# Altium schematic symbol library IC_SMT.SchLib: 67 symbols
Pins are listed as number, name and electrical type; pins without a type are passive.

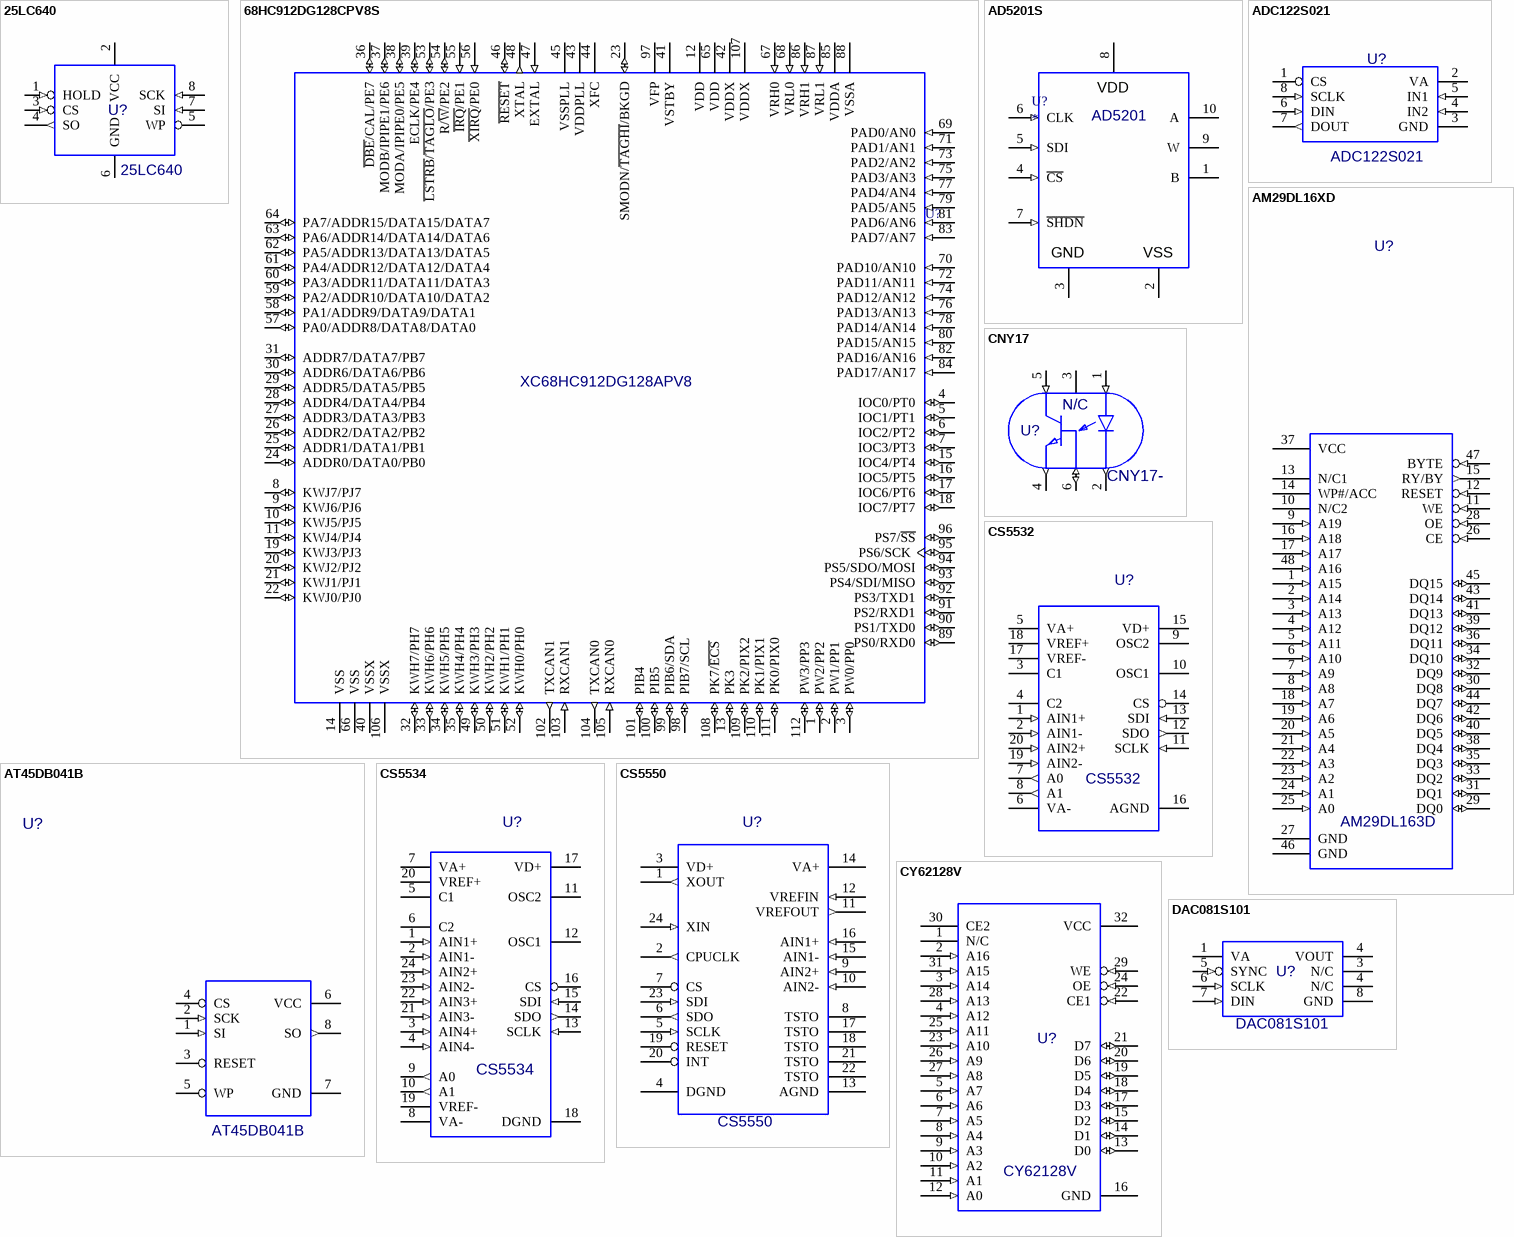
[diagram p0: symbols 25LC640 to DAC081S101]

## 25LC640
designator U?, comment value 25LC640  (hidden comment: 60184-6660)
IC, 25LC640; ECAD_Revision: 1; Librarian: US; PartNumber: 60184-6660; HelpURL: K:\ACCELEDA\PDF Spec Files\IC\25LC640.PDF; Item: *
footprint TSSOP8
pins: 1 HOLD (in), 2 VCC (power), 3 CS (in), 4 SO (out), 5 WP, 6 GND, 7 SI (in), 8 SCK (in)

## 68HC912DG128CPV8S
designator U?, comment value XC68HC912DG128APV8  (hidden comment: IXD/XC9120G128PV)
IC, XC68HC921DG128APV8; Power Rating: ??; ECAD_Revision: 2; Librarian: UK; PartNumber: IXD/XC9120G128PV; Item: *; Tolerance: *; HelpURL: *
footprint QFP112 (QFP; 112 Leads; Body 20 x 20 mm; Pitch 0.65 mm. Rev. 1)
pins: 1 PW2/PP2 (io), 2 PW1/PP1 (io), 3 PW0/PP0 (io), 4 IOC0/PT0 (io), 5 IOC1/PT1 (io), 6 IOC2/PT2 (io), 7 IOC3/PT3 (io), 8 KWJ7/PJ7 (io), 9 KWJ6/PJ6 (io), 10 KWJ5/PJ5 (io), 11 KWJ4/PJ4 (io), 12 VDD (power), 13 PK3 (io), 14 VSS (power), 15 IOC4/PT4 (io), 16 IOC5/PT5 (io), 17 IOC6/PT6 (io), 18 IOC7/PT7 (io), 19 KWJ3/PJ3 (io), 20 KWJ2/PJ2 (io), 21 KWJ1/PJ1 (io), 22 KWJ0/PJ0 (io), 23 SMODN/~{TAGHI}/BKGD (io), 24 ADDR0/DATA0/PB0 (io), 25 ADDR1/DATA1/PB1 (io), 26 ADDR2/DATA2/PB2 (io), 27 ADDR3/DATA3/PB3 (io), 28 ADDR4/DATA4/PB4 (io), 29 ADDR5/DATA5/PB5 (io), 30 ADDR6/DATA6/PB6 (io), 31 ADDR7/DATA7/PB7 (io), 32 KWH7/PH7 (io), 33 KWH6/PH6 (io), 34 KWH5/PH5 (io), 35 KWH4/PH4 (io), 36 ~{DBE}/CAL/PE7 (io), 37 MODB/IPIPE1/PE6 (io), 38 MODA/IPIPE0/PE5 (io), 39 ECLK/PE4 (io), 40 VSSX (power), 41 VSTBY (power), 42 VDDX (power), 43 VDDPLL (power), 44 XFC, 45 VSSPLL (power), 46 ~{RESET} (io), 47 EXTAL (in), 48 XTAL (out), 49 KWH3/PH3 (io), 50 KWH2/PH2 (io), 51 KWH1/PH1 (io), 52 KWH0/PH0 (io), 53 ~{LSTRB}/~{TAGLO}/PE3 (io), 54 R/~{W}/PE2 (io), 55 ~{IRQ}/PE1 (in), 56 ~{XIRQ}/PE0 (in), 57 PA0/ADDR8/DATA8/DATA0 (io), 58 PA1/ADDR9/DATA9/DATA1 (io), 59 PA2/ADDR10/DATA10/DATA2 (io), 60 PA3/ADDR11/DATA11/DATA3 (io), 61 PA4/ADDR12/DATA12/DATA4 (io), 62 PA5/ADDR13/DATA13/DATA5 (io), 63 PA6/ADDR14/DATA14/DATA6 (io), 64 PA7/ADDR15/DATA15/DATA7 (io), 65 VDD (power), 66 VSS (power), 67 VRH0 (in), 68 VRL0 (in), 69 PAD0/AN0 (in), 70 PAD10/AN10 (in), 71 PAD1/AN1 (in), 72 PAD11/AN11 (in), 73 PAD2/AN2 (in), 74 PAD12/AN12 (in), 75 PAD3/AN3 (in), 76 PAD13/AN13 (in), 77 PAD4/AN4 (in), 78 PAD14/AN14 (in), 79 PAD5/AN5 (in), 80 PAD15/AN15 (in), 81 PAD6/AN6 (in), 82 PAD16/AN16 (in), 83 PAD7/AN7 (in), 84 PAD17/AN17 (in), 85 VDDA (power), 86 VRH1 (in), 87 VRL1 (in), 88 VSSA (power), 89 PS0/RXD0 (io), 90 PS1/TXD0 (io), 91 PS2/RXD1 (io), 92 PS3/TXD1 (io), 93 PS4/SDI/MISO (io), 94 PS5/SDO/MOSI (io), 95 PS6/SCK (io), 96 PS7/~{SS} (io), 97 VFP (power), 98 PIB7/SCL (io), 99 PIB6/SDA (io), 100 PIB5 (io), 101 PIB4 (io), 102 TXCAN1 (out), 103 RXCAN1 (in), 104 TXCAN0 (out), 105 RXCAN0 (in), 106 VSSX (power), 107 VDDX (power), 108 PK7/~{ECS} (io), 109 PK2/PIX2 (io), 110 PK1/PIX1 (io), 111 PK0/PIX0 (io), 112 PW3/PP3 (io)

## AD5201S
designator U?  value AD5201
IC, AD5201BRM10, 33 Position  Digital Potentiometer; PartNumber: AWT25-000123; Librarian: UK; ECAD_Revision: 1; HelpURL: *
footprint uSOIC10 (Analog Devices 10-lead uSOIC RM-10 Rev.1)
pins: 1 B "B Terminal", 2 VSS "Negative Power Supply", 3 GND "Ground", 4 ~{CS} (in) "Chip Select Input", 5 SDI (in) "Serial Data Input", 6 CLK (in) "Serial Clock Input", 7 ~{SHDN} (in) "Shutdown", 8 VDD "Positive Power Supply", 9 W "Wiper Terminal", 10 A "A Terminal"

## ADC122S021
designator U?, comment value ADC122S021  (hidden comment: 23996-)
IC, ADC122S021; ECAD_Revision: 1; Librarian: US; PartNumber: 23996-; HelpURL: K:\ACCELEDA\PDF Spec Files\IC\ADC122S021.pdf; Item: *
footprint MSOP8
pins: 1 CS, 2 VA (power), 3 GND, 4 IN2 (in), 5 IN1 (in), 6 DIN (in), 7 DOUT (out), 8 SCLK (in)

## AM29DL16XD
designator U?, comment value AM29DL163D  (hidden comment: 60184-3337)
IC, AM29DL163D; ECAD_Revision: 1; Librarian: US; PartNumber: 60184-3337; HelpURL: K:\ACCELEDA\PDF Spec Files\IC\am29DL163D.PDF; Item: *
footprint TSOP48
pins: 1 A15 (in), 2 A14 (in), 3 A13 (in), 4 A12 (in), 5 A11 (in), 6 A10 (in), 7 A9 (in), 8 A8 (in), 9 A19 (in), 10 N/C2, 11 WE (in), 12 RESET (in), 13 N/C1, 14 WP#/ACC, 15 RY/BY (out), 16 A18 (in), 17 A17 (in), 18 A7 (in), 19 A6 (in), 20 A5 (in), 21 A4 (in), 22 A3 (in), 23 A2 (in), 24 A1 (in), 25 A0 (in), 26 CE (in), 27 GND, 28 OE (in), 29 DQ0 (io), 30 DQ8 (io), 31 DQ1 (io), 32 DQ9 (io), 33 DQ2 (io), 34 DQ10 (io), 35 DQ3 (io), 36 DQ11 (io), 37 VCC (power), 38 DQ4 (io), 39 DQ12 (io), 40 DQ5 (io), 41 DQ13 (io), 42 DQ6 (io), 43 DQ14 (io), 44 DQ7 (io), 45 DQ15 (io), 46 GND, 47 BYTE (in), 48 A16 (in)

## AT45DB041B
designator U?, comment value AT45DB041B  (hidden comment: AWT25-500076)
IC, AT45DB041B; ECAD_Revision: 2; Librarian: US; PartNumber: AWT25-500076; HelpURL: K:\ACCELEDA\PDF Spec Files\IC\AT45D041B.pdf; Item: *
footprint SOIC8_210
pins: 1 SI (in), 2 SCK (in), 3 RESET, 4 CS, 5 WP, 6 VCC (power), 7 GND, 8 SO (out)

## CNY17
designator U?, comment value CNY17-  (hidden comment: 60186-6668)
IC, Optocoupler CNY17-; ECAD_Revision: 1; Librarian: US; HelpURL: K:\ACCELEDA\PDF Spec Files\IC\CNY17-3.PDF; PartNumber: 60186-6668; Item: *
footprint SOIC6_300
pins: 1 (in), 2 (out), 3, 4 (out), 5 (in), 6 (io)
text: N/C

## CS5532
designator U?, comment value CS5532  (hidden comment: 60185-7006)
IC, CS5532; ECAD_Revision: 1; Librarian: US; PartNumber: 60185-7006; HelpURL: K:\ACCELEDA\PDF Spec Files\IC\cs5531-5.pdf; Item: *
footprint SSOP20
pins: 1 AIN1+ (in), 2 AIN1- (in), 3 C1, 4 C2, 5 VA+, 6 VA-, 7 A0 (out), 8 A1 (out), 9 OSC2, 10 OSC1, 11 SCLK (in), 12 SDO (out), 13 SDI (in), 14 CS, 15 VD+, 16 AGND, 17 VREF-, 18 VREF+, 19 AIN2- (in), 20 AIN2+ (in)

## CS5534
designator U?, comment value CS5534  (hidden comment: AWT25-500099)
IC, CS5534; ECAD_Revision: 1; Librarian: US; PartNumber: AWT25-500099; HelpURL: K:\ACCELEDA\PDF Spec Files\IC\cs5534.pdf; Item: *
footprint SSOP24
pins: 1 AIN1+ (in), 2 AIN1- (in), 3 AIN4+ (in), 4 AIN4- (in), 5 C1, 6 C2, 7 VA+, 8 VA-, 9 A0 (out), 10 A1 (out), 11 OSC2, 12 OSC1, 13 SCLK (in), 14 SDO (out), 15 SDI (in), 16 CS, 17 VD+, 18 DGND, 19 VREF-, 20 VREF+, 21 AIN3- (in), 22 AIN3+ (in), 23 AIN2- (in), 24 AIN2+ (in)

## CS5550
designator U?, comment value CS5550  (hidden comment: TMP_US_CS5550)
IC, CS5550; ECAD_Revision: 1; Librarian: US; PartNumber: TMP_US_CS5550; HelpURL: K:\ACCELEDA\PDF Spec Files\IC\cs5550.pdf; Item: *
footprint SSOP24
pins: 1 XOUT (out), 2 CPUCLK (out), 3 VD+ (power), 4 DGND, 5 SCLK (in), 6 SDO (out), 7 CS, 8 TSTO, 9 AIN2+ (in), 10 AIN2- (in), 11 VREFOUT (out), 12 VREFIN (in), 13 AGND, 14 VA+ (power), 15 AIN1- (in), 16 AIN1+ (in), 17 TSTO, 18 TSTO, 19 RESET, 20 INT, 21 TSTO, 22 TSTO, 23 SDI (in), 24 XIN (in)

## CY62128V
designator U?, comment value CY62128V  (hidden comment: 60184-0028)
IC, CY62128V; ECAD_Revision: 1; Librarian: US; PartNumber: 60184-0028; HelpURL: K:\ACCELEDA\PDF Spec Files\IC\CY62128V.PDF; Item: *
footprint SOIC32
pins: 1 N/C, 2 A16 (in), 3 A14 (in), 4 A12 (in), 5 A7 (in), 6 A6 (in), 7 A5 (in), 8 A4 (in), 9 A3 (in), 10 A2 (in), 11 A1 (in), 12 A0 (in), 13 D0 (io), 14 D1 (io), 15 D2 (io), 16 GND, 17 D3 (io), 18 D4 (io), 19 D5 (io), 20 D6 (io), 21 D7 (io), 22 CE1 (in), 23 A10 (in), 24 OE (in), 25 A11 (in), 26 A9 (in), 27 A8 (in), 28 A13 (in), 29 WE (in), 30 CE2, 31 A15 (in), 32 VCC (power)

## DAC081S101
designator U?, comment value DAC081S101  (hidden comment: TMP_US_DAC081S101)
IC, DAC081S101; ECAD_Revision: 1; Librarian: US; PartNumber: TMP_US_DAC081S101; HelpURL: K:\ACCELEDA\PDF Spec Files\IC\DAC081S101.PDF; Item: *
footprint MSOP8
pins: 1 VA (power), 3 N/C, 4 N/C, 4 VOUT (power), 5 SYNC (in), 6 SCLK (in), 7 DIN (in), 8 GND

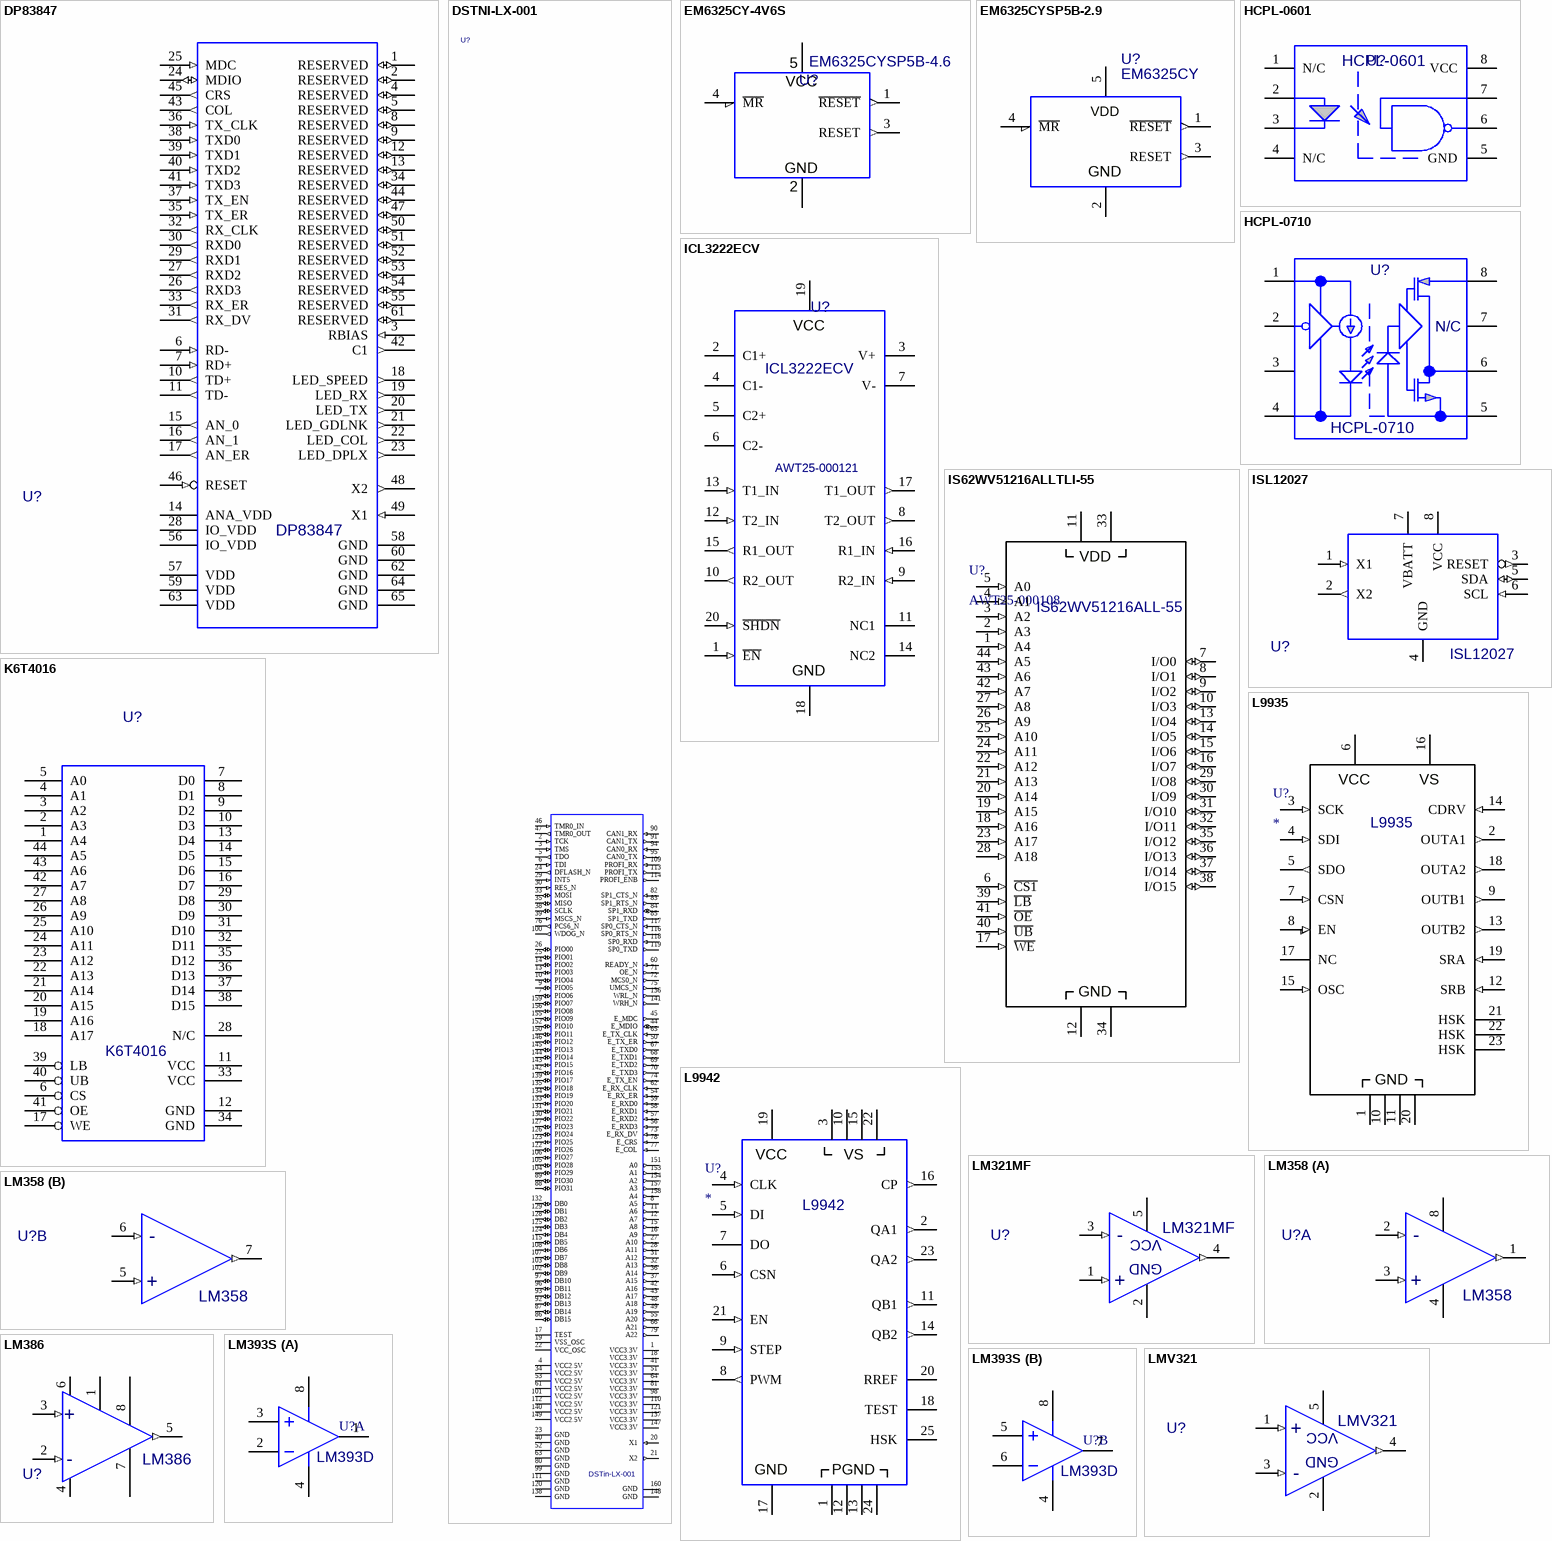
[diagram p1: symbols DP83847 to LMV321]

## DP83847
designator U?, comment value DP83847  (hidden comment: 60186-5009)
IC, DP83847; ECAD_Revision: 1; Librarian: US; PartNumber: 60186-5009; HelpURL: K:\ACCELEDA\PDF Spec Files\IC\dp83847.pdf; Item: *
footprint LLP56
pins: 1 RESERVED (io), 2 RESERVED (io), 3 RBIAS (in), 4 RESERVED (io), 5 RESERVED (io), 6 RD- (in), 7 RD+ (in), 8 RESERVED (io), 9 RESERVED (io), 10 TD+ (out), 11 TD- (out), 12 RESERVED (io), 13 RESERVED (io), 14 ANA_VDD (power), 15 AN_0 (out), 16 AN_1 (out), 17 AN_ER (out), 18 LED_SPEED (out), 19 LED_RX (out), 20 LED_TX (out), 21 LED_GDLNK (out), 22 LED_COL (out), 23 LED_DPLX (out), 24 MDIO (io), 25 MDC (in), 26 RXD3 (out), 27 RXD2 (out), 28 IO_VDD (power), 29 RXD1 (out), 30 RXD0 (out), 31 RX_DV (out), 32 RX_CLK (out), 33 RX_ER (out), 34 RESERVED (io), 35 TX_ER (in), 36 TX_CLK (in), 37 TX_EN (in), 38 TXD0 (in), 39 TXD1 (in), 40 TXD2 (in), 41 TXD3 (in), 42 C1 (out), 43 COL (out), 44 RESERVED (io), 45 CRS (out), 46 RESET (in), 47 RESERVED (io), 48 X2 (out), 49 X1 (in), 50 RESERVED (io), 51 RESERVED (io), 52 RESERVED (io), 53 RESERVED (io), 54 RESERVED (io), 55 RESERVED (io), 56 IO_VDD (power), 57 VDD (power), 58 GND (power), 59 VDD (power), 60 GND (power), 61 RESERVED (io), 62 GND (power), 63 VDD (power), 64 GND (power), 65 GND (power)

## DSTNI-LX-001
designator U?, comment value DSTin-LX-001  (hidden comment: 60183-0052)
IC, DSTin-LX-001; ECAD_Revision: 1; Librarian: US; HelpURL: K:\ACCELEDA\PDF Spec Files\IC\dstni-lx_databook_d.pdf; Item: *; PartNumber: 60183-0052
footprint LQFP160
pins: 1 VCC3.3V (power), 2 TCK (in), 3 TMS (in), 4 VCC2.5V (power), 5 TDO (out), 6 TDI (in), 7 PIO06 (io), 8 A5 (out), 9 PIO05 (io), 10 PIO04 (io), 11 A6 (out), 12 A7 (out), 13 PIO03 (io), 14 PIO02 (io), 15 A8 (out), 16 A9 (out), 17 TEST, 18 VCC3.3V (power), 19 VSS_OSC, 20 X1 (in), 21 X2 (out), 22 VCC_OSC (power), 23 GND, 24 DFLASH_N (out), 25 PIO01 (io), 26 PIO00 (io), 27 A10 (out), 28 A11 (out), 29 INT5 (in), 30 RES_N (in), 31 A12 (out), 32 A13 (out), 33 MOSI (io), 34 VCC2.5V (power), 35 MISO (io), 36 A14 (out), 37 A15 (out), 38 SCLK (io), 39 MSCS_N (in), 40 GND, 41 VCC3.3V (power), 42 A16 (out), 43 A17 (out), 44 E_MDIO (io), 45 E_MDC (out), 46 TMR0_IN (in), 47 TMR0_OUT (out), 48 A18 (out), 49 A19 (out), 50 E_TX_ER (out), 51 VCC3.3V (power), 52 GND, 53 VCC2.5V (power), 54 E_RX_ER (in), 55 A20 (out), 56 E_RXD3 (in), 57 E_RXD2 (in), 58 E_RXD1 (in), 59 E_RXD0 (in), 60 READY_N (in), 61 VCC2.5V (power), 62 E_RX_CLK (in), 63 GND, 64 VCC3.3V (power), 65 E_TX_CLK (in), 66 A21 (out), 67 E_TXD0 (out), 68 E_TXD1 (out), 69 E_TXD2 (out), 70 E_TXD3 (out), 71 OE_N (out), 72 MCS0_N (out), 73 E_RX_DV (in), 74 E_TX_EN (out), 75 UMCS_N (out), 76 PCS6_N (out), 77 E_COL (in), 78 E_CRS (in), 79 A22 (out), 80 GND, 81 VCC3.3V (power), 82 SP1_CTS_N (in), 83 SP1_RTS_N (out), 84 SP1_RXD (io), 85 SP1_TXD (out), 86 DB15 (io), 87 DB14 (io), 88 PIO31 (io), 89 PIO30 (io), 90 CAN1_RX (in), 91 CAN1_TX (out), 92 DB13 (io), 93 DB12 (io), 94 CAN0_RX (in), 95 CAN0_TX (out), 96 DB11 (io), 97 DB10 (io), 98 VCC3.3V (power), 99 GND, 100 WDOG_N (out), 101 VCC2.5V (power), 102 DB9 (io), 103 DB8 (io), 104 PIO29 (io), 105 PIO28 (io), 106 PIO27 (io), 107 DB7 (io), 108 DB6 (io), 109 PROFI_RX (in), 110 VCC3.3V (power), 111 GND, 112 VCC2.5V (power), 113 PROFI_TX (out), 114 PROFI_ENB (out), 115 DB5 (io), 116 SP0_RTS_N (out), 117 SP0_CTS_N (in), 118 SP0_RXD (in), 119 SP0_TXD (out), 120 GND, 121 VCC3.3V (power), 122 PIO26 (io), 123 PIO25 (io), 124 DB4 (io), 125 DB3 (io), 126 PIO24 (io), 127 PIO23 (io), 128 DB2 (io), 129 DB1 (io), 130 PIO22 (io), 131 PIO21 (io), 132 DB0 (io), 133 PIO20 (io), 134 PIO19 (io), 135 PIO18 (io), 136 WRL_N (out), 137 VCC3.3V (power), 138 GND, 139 PIO17 (io), 140 VCC2.5V (power), 141 WRH_N (out), 142 PIO16 (io), 143 PIO15 (io), 144 PIO14 (io), 145 PIO13 (io), 146 PIO12 (io), 147 VCC3.3V (power), 148 GND, 149 VCC2.5V (power), 150 PIO11 (io), 151 A0 (out), 152 PIO10 (io), 153 A1 (out), 154 A2 (out), 155 PIO09 (io), 156 PIO08 (io), 157 A3 (out), 158 A4 (out), 159 PIO07 (io), 160 GND

## EM6325CY-4V6S
designator U?, comment value EM6325CYSP5B-4.6  (hidden comment: IXA/EM6325CY-4V6)
IC, EM6325CYSP5B-4.6; Power Rating: ??; ECAD_Revision: 5; Librarian: UK; PartNumber: IXA/EM6325CY-4V6; Item: *
footprint SOT23-5
pins: 1 ~{RESET} (out), 2 GND (power), 3 RESET (out), 4 ~{MR}, 5 VDD (power)
text: VCC

## EM6325CYSP5B-2.9
designator U?, comment value EM6325CY  (hidden comment: IXA/EM6325CY-2_9)
IC, Reset Generator 2.9V; Power Rating: ??; ECAD_Revision: 1; Librarian: UK; PartNumber: IXA/EM6325CY-2_9; Item: *
footprint SOT23-5
pins: 1 ~{RESET} (out), 2 GND (power), 3 RESET (out), 4 ~{MR}, 5 VDD (power)

## HCPL-0601
designator U?, comment value HCPL-0601  (hidden comment: 60186-6676)
IC, HCPL-0601; ECAD_Revision: 1; Librarian: US; PartNumber: 60186-6676; HelpURL: K:\ACCELEDA\PDF Spec Files\IC\HCPL-0601.PDF; Item: *
footprint SOIC8
pins: 1 N/C, 2 ANODE, 3 CATHODE, 4 N/C, 5 GND, 6 V02, 7 VE, 8 VCC (power)

## HCPL-0710
designator U?, comment value HCPL-0710  (hidden comment: 60186-6684)
IC, HCPL-0710; ECAD_Revision: 1; Librarian: US; PartNumber: 60186-6684; HelpURL: K:\ACCELEDA\PDF Spec Files\IC\HCPL-0710.PDF; Item: *
footprint SOIC8
pins: 1 VDD1, 2 V1, 3 ANODE, 4 GND1, 5 GND2, 6 V0, 7 N/C, 8 VDD2

## ICL3222ECV
designator U?, comment AWT25-000121  value ICL3222ECV
IC, 250kbps RS232 2 x Transmitters / 2 x Receivers; ECAD_Revision: 1; Librarian: UK; PartNumber: AWT25-000121; Item: *; Power Rating: *; Tolerance: *
footprint TSSOP20
pins: 1 ~{EN} (in), 2 C1+, 3 V+, 4 C1-, 5 C2+, 6 C2-, 7 V-, 8 T2_OUT (out), 9 R2_IN (in), 10 R2_OUT (out), 11 NC1, 12 T2_IN (in), 13 T1_IN (in), 14 NC2, 15 R1_OUT (out), 16 R1_IN (in), 17 T1_OUT (out), 18 GND, 19 VCC, 20 ~{SHDN} (in)

## IS62WV51216ALLTLI-55
designator U?, comment AWT25-000108  value IS62WV51216ALL-55
IC, IS62WV51216ALL-55TLI, CMOS STATIC RAM; ECAD_Revision: 1; Librarian: UK; HelpURL: *; Item: *; PartNumber: AWT25-000108; Power Rating: *; Tolerance: *
footprint TSOPII44
pins: 1 A4 (in) "Address 4", 2 A3 (in) "Address 3", 3 A2 (in) "Address 2", 4 A1 (in) "Address 1", 5 A0 (in) "Address 0", 6 ~{CS1} (in) "/Chip Select 1", 7 I/O0 (io) "Data Input/Output 0", 8 I/O1 (io) "Data Input/Output 1", 9 I/O2 (io) "Data Input/Output 2", 10 I/O3 (io) "Data Input/Output 3", 11 VDD (power) "Power Supply", 12 GND (power) "Ground", 13 I/O4 (io) "Data Input/Output 4", 14 I/O5 (io) "Data Input/Output 5", 15 I/O6 (io) "Data Input/Output 6", 16 I/O7 (io) "Data Input/Output 7", 17 ~{WE} (in) "/Write Enable", 18 A16 (in) "Address 16", 19 A15 (in) "Address 15", 20 A14 (in) "Address 14", 21 A13 (in) "Address 13", 22 A12 (in) "Address 12", 23 A17 (in) "Address 17", 24 A11 (in) "Address 11", 25 A10 (in) "Address 10", 26 A9 (in) "Address 9", 27 A8 (in) "Address 8", 28 A18 (in) "Address 18", 29 I/O8 (io) "Data Input/Output 8", 30 I/O9 (io) "Data Input/Output 9", 31 I/O10 (io) "Data Input/Output 10", 32 I/O11 (io) "Data Input/Output 11", 33 VDD (power) "Power Supply", 34 GND (power) "Ground", 35 I/O12 (io) "Data Input/Output 12", 36 I/O13 (io) "Data Input/Output 13", 37 I/O14 (io) "Data Input/Output 14", 38 I/O15 (io) "Data Input/Output 15", 39 ~{LB} (in) "/Lower Byte Control", 40 ~{UB} (in) "/Upper Byte Control", 41 ~{OE} (in) "/Output Enable", 42 A7 (in) "Address 7", 43 A6 (in) "Address 6", 44 A5 (in) "Address 5"

## ISL12027
designator U?, comment value ISL12027  (hidden comment: TMP_US_ISL12027)
IC, ISL12027; ECAD_Revision: 1; Librarian: US; PartNumber: TMP_US_ISL12027; HelpURL: K:\ACCELEDA\PDF Spec Files\IC\ISL12027.pdf; Item: *
footprint SOIC8
pins: 1 X1 (in), 2 X2 (out), 3 RESET (out), 4 GND, 5 SDA (io), 6 SCL (in), 7 VBATT, 8 VCC (power)

## K6T4016
designator U?, comment value K6T4016  (hidden comment: 60184-0010)
IC, K6T4016; ECAD_Revision: 1; Librarian: US; PartNumber: 60184-0010; HelpURL: K:\ACCELEDA\PDF Spec Files\IC\k6t4016.pdf; Item: *
footprint TSOPII44
pins: 1 A4, 2 A3, 3 A2, 4 A1, 5 A0, 6 CS, 7 D0, 8 D1, 9 D2, 10 D3, 11 VCC, 12 GND, 13 D4, 14 D5, 15 D6, 16 D7, 17 WE, 18 A17, 19 A16, 20 A15, 21 A14, 22 A13, 23 A12, 24 A11, 25 A10, 26 A9, 27 A8, 28 N/C, 29 D8, 30 D9, 31 D10, 32 D11, 33 VCC, 34 GND, 35 D12, 36 D13, 37 D14, 38 D15, 39 LB, 40 UB, 41 OE, 42 A7, 43 A6, 44 A5

## L9935
designator U?  value L9935
IC, Two Phase Stepper Motor Driver; PartNumber: IXA/L9935; Librarian: UK; ECAD_revision: 1; HelpURL: *
footprint SO20_POWER (ST Micro Jedec MO-166 Rev. 1)
pins: 1 GND "Ground", 2 OUTA1 (out) "Output 1A", 3 SCK (in) "Serial Clock Input", 4 SDI (in) "Serial Data Input", 5 SDO (out) "Serial Data Output", 6 VCC "Logic Supply", 7 CSN (in) "Chip select", 8 EN (in) "Enable", 9 OUTB1 (out) "Output B1", 10 GND "Ground", 11 GND "Ground", 12 SRB (in) "Current Sense B", 13 OUTB2 (out) "Output B2", 14 CDRV (in) "Charge Pump Capacitor", 15 OSC (in) "Oscillator Input", 16 VS "Supply Voltage", 17 NC "Not Connected", 18 OUTA2 (out) "Output A2", 19 SRA (in) "Current Sense A", 20 GND "Ground", 21 HSK "Heatsink", 22 HSK "Heatsink", 23 HSK "Heatsink"

## L9942
designator U?  value L9942
IC, L9942, Two Phase Stepper Motor Driver; PartNumber: AWT25-000112; ECAD_Revision: 1; LIbrarian: UK; HelpURL: *; Power Rating: *; Tolerance: *; Item: *
footprint SO24_POWER (ST Micro, Rev. 1)
pins: 1 PGND "Power Ground", 2 QA1 (out) "Bridge Output A1", 3 VS "Power Supply Voltage", 4 CLK (in) "SPI Clock Input", 5 DI (in) "SPI Data Input", 6 CSN (in) "SPI Chip Select", 7 DO  "SPI Data Output", 8 PWM (out) "PWM Output", 9 STEP (in) "Step Clock Input", 10 VS "Power Supply Voltage", 11 QB1 (out) "Bridge Output B1", 12 PGND "Power Ground", 13 PGND "Power Ground", 14 QB2 (out) "Bridge Output B2", 15 VS "Power Supply Voltage", 16 CP (out) "Charge Pump Output", 17 GND "Ground Reference", 18 TEST "Test Input", 19 VCC "Logic Supply Voltage", 20 RREF "Reference Resistor", 21 EN (in) "Enable Input", 22 VS "Power Supply Voltage", 23 QA2 (out) "Bridge Output A2", 24 PGND "Power Ground", 25 HSK "Heatsink"

## LM321MF
designator U?, comment value LM321MF  (hidden comment: AWT25-000229)
IC, LM321MF; ECAD_Revision: 1; Librarian: UK; PartNumber: AWT25-000229; HelpURL: *; Item: *
footprint SOT23-5
pins: 1 IN+ (in), 2 GND, 3 IN- (in), 4 OUT (out), 5 VCC
text: -; +

## LM358
designator U?, comment value LM358  (hidden comment: AWT25-500077)
IC, LM358; ECAD_Revision: 2; Librarian: US; PartNumber: AWT25-500077; HelpURL: K:\ACCELEDA\PDF Spec Files\IC\lm358pw.pdf; Item: *
footprint TSSOP8
part A pins: 1 1OUT (out), 2 1IN- (in), 3 1IN+ (in), 4 GND, 8 VCC (power)
part B pins: 5 2IN+ (in), 6 2IN- (in), 7 2OUT (out)
part A text: -; +
part B text: -; +

## LM386
designator U?, comment value LM386  (hidden comment: AWT25-500078)
IC, LM386; ECAD_Revision: 2; Librarian: US; PartNumber: AWT25-500078; HelpURL: K:\ACCELEDA\PDF Spec Files\IC\lm386.pdf; Item: *
footprint SOIC8
pins: 1 GAIN, 2 -IN (in), 3 +IN (in), 4 GND, 5 VOUT (out), 6 VS (power), 7 BYPASS, 8 GAIN
text: +; -

## LM393S
designator U?, comment value LM393D  (hidden comment: IXA/LM393D)
IC, LM393D, Dual voltage comparator; ECAD_Revision: 2; Librarian: UK; PartNumber: IXA/LM393D; Item: *; HelpURL: *
footprint SOIC8
pins on every part: 4 (power), 8 (power)
part A pins: 1, 2, 3
part B pins: 5, 6, 7

## LMV321
designator U?, comment value LMV321  (hidden comment: IXA/LMV321M7)
IC, LMV321M7X; ECAD_Revision: 4; Librarian: UK; PartNumber: IXA/LMV321M7; HelpURL: *; Item: *
footprint SC70-5 (Rev. 2, pad size was 0.5x0.4mm, round)
pins: 1 IN- (in), 2 GND, 3 IN+ (in), 4 OUT (out), 5 VCC
text: +; -

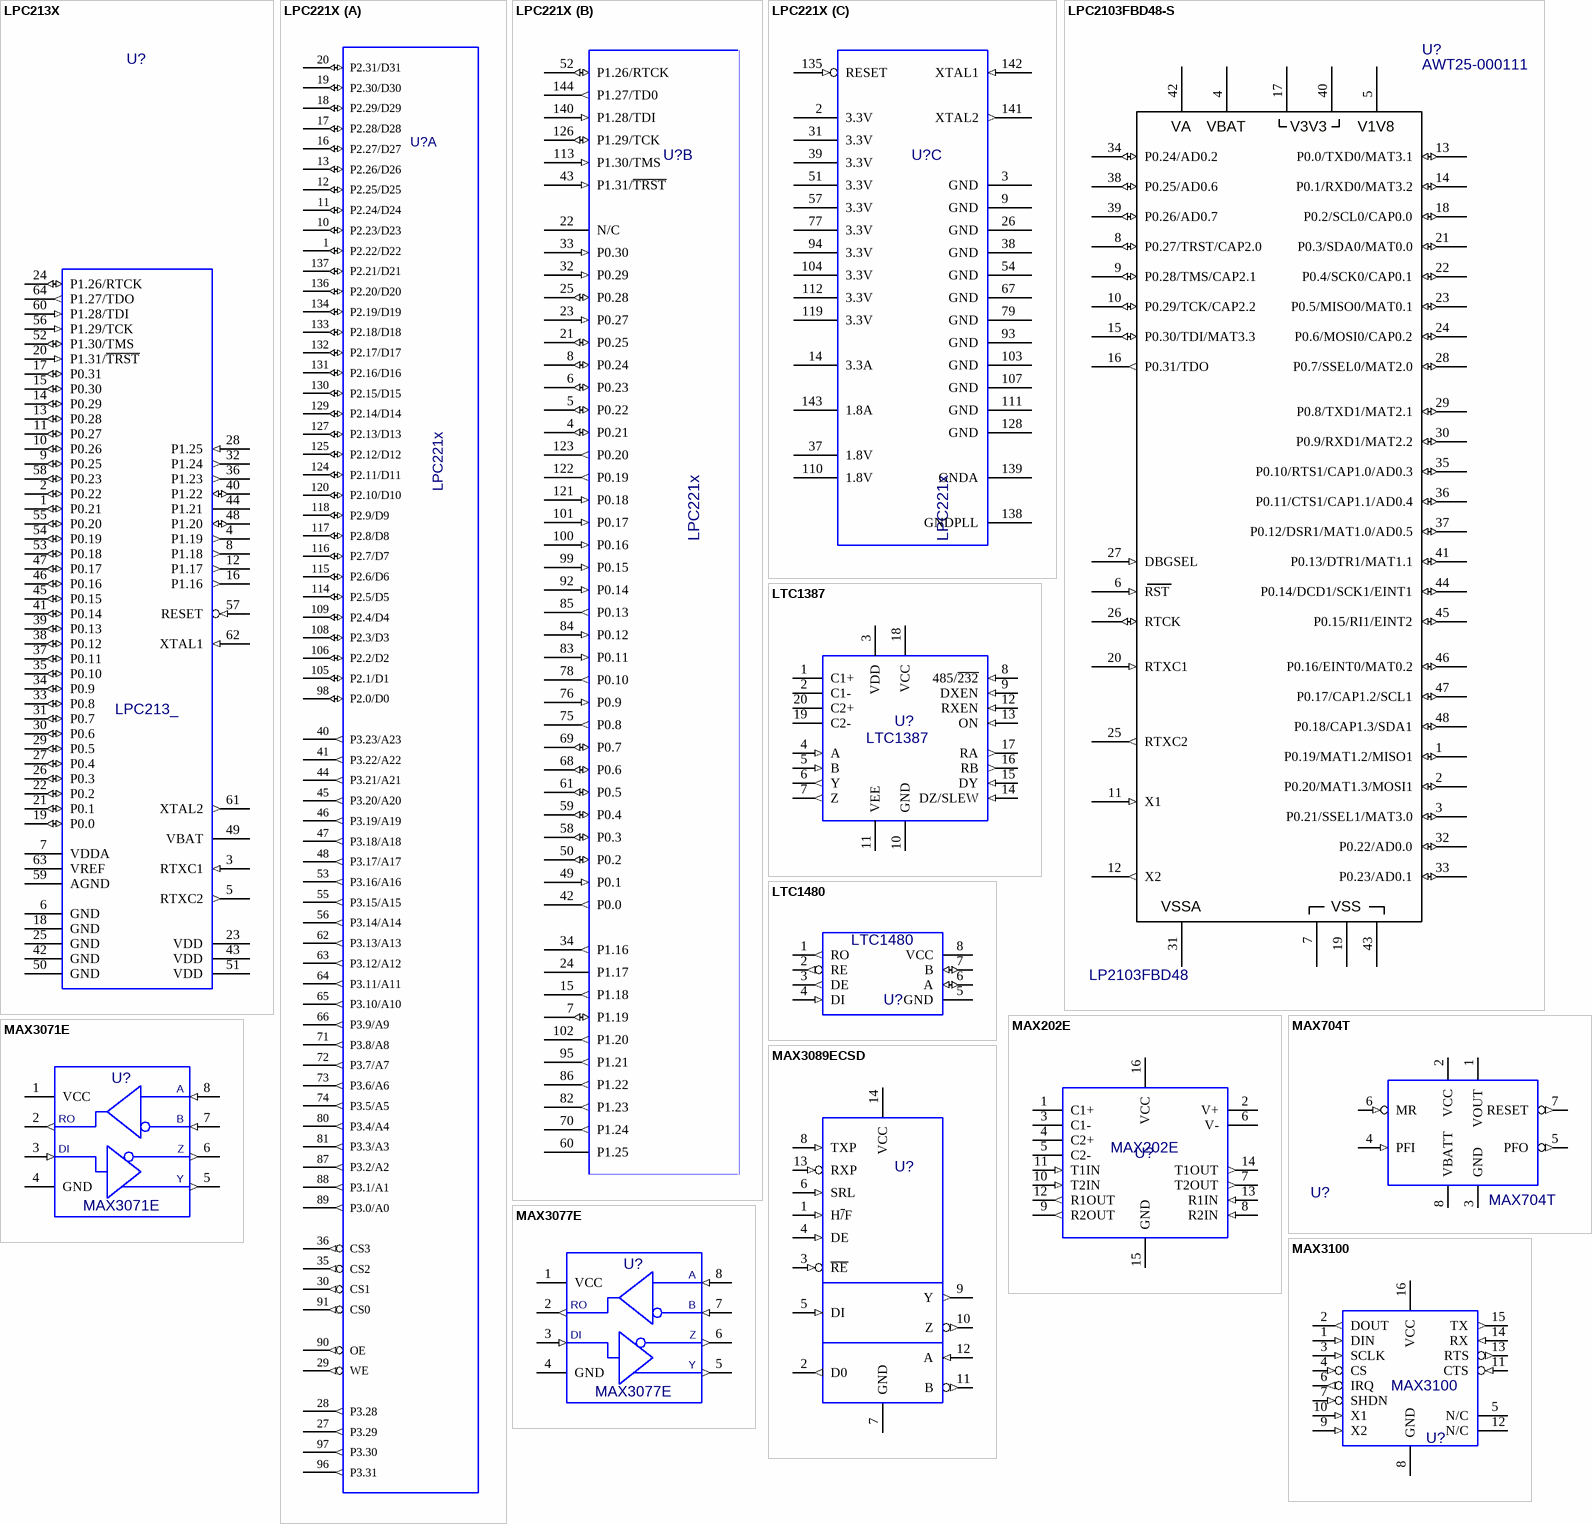
[diagram p2: symbols LPC213X to MAX3100]

## LPC213X
designator U?, comment value LPC213_  (hidden comment: 60183-0045 or 60183-0060)
IC, LPC213_; ECAD_Revision: 1; Librarian: US; PartNumber: 60183-0045 or 60183-0060; HelpURL: K:\ACCELEDA\PDF Spec Files\IC\LPC2131.pdf; Item: *
footprint LQFP64
pins: 1 P0.21 (io), 2 P0.22 (io), 3 RTXC1 (in), 4 P1.19 (out), 5 RTXC2 (out), 6 GND, 7 VDDA (power), 8 P1.18 (out), 9 P0.25 (io), 10 P0.26 (io), 11 P0.27 (io), 12 P1.17 (out), 13 P0.28 (io), 14 P0.29 (io), 15 P0.30 (io), 16 P1.16 (out), 17 P0.31 (io), 18 GND, 19 P0.0 (io), 20 P1.31/~{TRST} (in), 21 P0.1 (io), 22 P0.2 (io), 23 VDD (power), 24 P1.26/RTCK (io), 25 GND, 26 P0.3 (io), 27 P0.4 (io), 28 P1.25 (in), 29 P0.5 (io), 30 P0.6 (io), 31 P0.7 (io), 32 P1.24 (out), 33 P0.8 (io), 34 P0.9 (io), 35 P0.10 (io), 36 P1.23 (out), 37 P0.11 (io), 38 P0.12 (io), 39 P0.13 (io), 40 P1.22 (io), 41 P0.14 (io), 42 GND, 43 VDD (power), 44 P1.21, 45 P0.15 (io), 46 P0.16 (io), 47 P0.17 (io), 48 P1.20 (io), 49 VBAT (power), 50 GND, 51 VDD (power), 52 P1.30/TMS (io), 53 P0.18 (io), 54 P0.19 (io), 55 P0.20 (io), 56 P1.29/TCK (in), 57 RESET (in), 58 P0.23 (io), 59 AGND (power), 60 P1.28/TDI (in), 61 XTAL2 (out), 62 XTAL1 (in), 63 VREF (power), 64 P1.27/TDO (out)

## LPC221X
designator U?, comment value LPC221x  (hidden comment: 60183-0011 or 60183-0029)
IC, LPC221x; ECAD_Revision: 1; Librarian: US; PartNumber: 60183-0011 or 60183-0029; HelpURL: K:\ACCELEDA\PDF Spec Files\IC\LPC2212_2214-02.PDF; Item: *
footprint LQFP144
part A pins: 1 P2.22/D22 (io), 10 P2.23/D23 (io), 11 P2.24/D24 (io), 12 P2.25/D25 (io), 13 P2.26/D26 (io), 16 P2.27/D27 (io), 17 P2.28/D28 (io), 18 P2.29/D29 (io), 19 P2.30/D30 (io), 20 P2.31/D31 (io), 27 P3.29 (out), 28 P3.28 (out), 29 WE (out), 30 CS1 (out), 35 CS2 (out), 36 CS3 (out), 40 P3.23/A23 (out), 41 P3.22/A22 (out), 44 P3.21/A21 (out), 45 P3.20/A20 (out), 46 P3.19/A19 (out), 47 P3.18/A18 (out), 48 P3.17/A17 (out), 53 P3.16/A16 (out), 55 P3.15/A15 (out), 56 P3.14/A14 (out), 62 P3.13/A13 (out), 63 P3.12/A12 (out), 64 P3.11/A11 (out), 65 P3.10/A10 (out), 66 P3.9/A9 (out), 71 P3.8/A8 (out), 72 P3.7/A7 (out), 73 P3.6/A6 (out), 74 P3.5/A5 (out), 80 P3.4/A4 (out), 81 P3.3/A3 (out), 87 P3.2/A2 (out), 88 P3.1/A1 (out), 89 P3.0/A0 (out), 90 OE (out), 91 CS0 (out), 96 P3.31 (out), 97 P3.30 (out), 98 P2.0/D0 (io), 105 P2.1/D1 (io), 106 P2.2/D2 (io), 108 P2.3/D3 (io), 109 P2.4/D4 (io), 114 P2.5/D5 (io), 115 P2.6/D6 (io), 116 P2.7/D7 (io), 117 P2.8/D8 (io), 118 P2.9/D9 (io), 120 P2.10/D10 (io), 124 P2.11/D11 (io), 125 P2.12/D12 (io), 127 P2.13/D13 (io), 129 P2.14/D14 (io), 130 P2.15/D15 (io), 131 P2.16/D16 (io), 132 P2.17/D17 (io), 133 P2.18/D18 (io), 134 P2.19/D19 (io), 136 P2.20/D20 (io), 137 P2.21/D21 (io)
part B pins: 4 P0.21 (io), 5 P0.22 (io), 6 P0.23 (io), 7 P1.19 (io), 8 P0.24 (io), 15 P1.18 (out), 21 P0.25 (io), 22 N/C, 23 P0.27 (in), 24 P1.17, 25 P0.28 (io), 32 P0.29 (in), 33 P0.30 (in), 34 P1.16 (out), 42 P0.0 (out), 43 P1.31/~{TRST} (in), 49 P0.1 (in), 50 P0.2 (io), 52 P1.26/RTCK (io), 58 P0.3 (io), 59 P0.4 (io), 60 P1.25, 61 P0.5 (io), 68 P0.6 (io), 69 P0.7 (io), 70 P1.24 (out), 75 P0.8 (out), 76 P0.9 (in), 78 P0.10 (out), 82 P1.23 (out), 83 P0.11 (in), 84 P0.12 (in), 85 P0.13 (out), 86 P1.22 (out), 92 P0.14 (in), 95 P1.21 (out), 99 P0.15 (in), 100 P0.16 (in), 101 P0.17 (in), 102 P1.20 (out), 113 P1.30/TMS (in), 121 P0.18 (in), 122 P0.19 (out), 123 P0.20 (out), 126 P1.29/TCK (io), 140 P1.28/TDI (in), 144 P1.27/TD0 (out)
part C pins: 2 3.3V (power), 3 GND, 9 GND, 14 3.3A (power), 26 GND, 31 3.3V (power), 37 1.8V (power), 38 GND, 39 3.3V (power), 51 3.3V (power), 54 GND, 57 3.3V (power), 67 GND, 77 3.3V (power), 79 GND, 93 GND, 94 3.3V (power), 103 GND, 104 3.3V (power), 107 GND, 110 1.8V (power), 111 GND, 112 3.3V (power), 119 3.3V (power), 128 GND, 135 RESET (in), 138 GNDPLL (power), 139 GNDA, 141 XTAL2 (out), 142 XTAL1 (in), 143 1.8A (power)

## LPC2103FBD48-S
designator U?, comment AWT25-000111  value LP2103FBD48
IC, ARM7 Microcontroller; ECAD_Revision: 1; Librarian: UK; PartNumber: AWT25-000111; Help_URL: *
footprint LQFP48-2 (Rev.1)
pins: 1 P0.19/MAT1.2/MISO1 (io), 2 P0.20/MAT1.3/MOSI1 (io), 3 P0.21/SSEL1/MAT3.0 (io), 4 VBAT, 5 V1V8, 6 RST (in), 7 VSS, 8 P0.27/TRST/CAP2.0 (io), 9 P0.28/TMS/CAP2.1 (io), 10 P0.29/TCK/CAP2.2 (io), 11 X1 (in), 12 X2 (out), 13 P0.0/TXD0/MAT3.1 (io), 14 P0.1/RXD0/MAT3.2 (io), 15 P0.30/TDI/MAT3.3 (io), 16 P0.31/TDO (out), 17 V3V3, 18 P0.2/SCL0/CAP0.0 (io), 19 VSS, 20 RTXC1 (in), 21 P0.3/SDA0/MAT0.0 (io), 22 P0.4/SCK0/CAP0.1 (io), 23 P0.5/MISO0/MAT0.1 (io), 24 P0.6/MOSI0/CAP0.2 (io), 25 RTXC2 (out), 26 RTCK (io), 27 DBGSEL (in), 28 P0.7/SSEL0/MAT2.0 (io), 29 P0.8/TXD1/MAT2.1 (io), 30 P0.9/RXD1/MAT2.2 (io), 31 VSSA, 32 P0.22/AD0.0 (io), 33 P0.23/AD0.1 (io), 34 P0.24/AD0.2 (io), 35 P0.10/RTS1/CAP1.0/AD0.3 (io), 36 P0.11/CTS1/CAP1.1/AD0.4 (io), 37 P0.12/DSR1/MAT1.0/AD0.5 (io), 38 P0.25/AD0.6 (io), 39 P0.26/AD0.7 (io), 40 V3V3, 41 P0.13/DTR1/MAT1.1 (io), 42 VA, 43 VSS, 44 P0.14/DCD1/SCK1/EINT1 (io), 45 P0.15/RI1/EINT2 (io), 46 P0.16/EINT0/MAT0.2 (io), 47 P0.17/CAP1.2/SCL1 (io), 48 P0.18/CAP1.3/SDA1 (io)

## LTC1387
designator U?, comment value LTC1387  (hidden comment: AWT25-500051)
IC, LTC1387; ECAD_Revision: 2; Librarian: US; PartNumber: AWT25-500051; HelpURL: K:\ACCELEDA\PDF Spec Files\IC\LTC1387.pdf; Item: *
footprint SSOP20
pins: 1 C1+, 2 C1-, 3 VDD (power), 4 A (in), 5 B (in), 6 Y (out), 7 Z (out), 8 485/~{232} (in), 9 DXEN (in), 10 GND, 11 VEE, 12 RXEN (in), 13 ON (in), 14 DZ/SLEW (in), 15 DY (in), 16 RB (out), 17 RA (out), 18 VCC (power), 19 C2-, 20 C2+

## LTC1480
designator U?, comment value LTC1480  (hidden comment: 60186-0059)
IC, LTC1480; ECAD_Revision: 1; Librarian: US; PartNumber: 60186-0059; HelpURL: K:\ACCELEDA\PDF Spec Files\IC\ltc1480.pdf; Item: *
footprint SOIC8
pins: 1 RO (out), 2 RE (out), 3 DE (out), 4 DI (in), 5 GND, 6 A (io), 7 B (io), 8 VCC (power)

## MAX202E
designator U?, comment value MAX202E  (hidden comment: 60186-0018)
IC, MAX202E; ECAD_Revision: 1; Librarian: US; PartNumber: 60186-0018; HelpURL: K:\ACCELEDA\PDF Spec Files\IC\MAX202E-MAX241E.PDF; Item: *
footprint SOIC16_300
pins: 1 C1+, 2 V+, 3 C1-, 4 C2+, 5 C2-, 6 V-, 7 T2OUT (out), 8 R2IN (in), 9 R2OUT (out), 10 T2IN (in), 11 T1IN (in), 12 R1OUT (out), 13 R1IN (in), 14 T1OUT (out), 15 GND, 16 VCC (power)

## MAX704T
designator U?, comment value MAX704T  (hidden comment: 60197-0023)
IC, MAX704T; ECAD_Revision: 1; Librarian: US; PartNumber: 60197-0023; HelpURL: K:\ACCELEDA\PDF Spec Files\IC\max704T.pdf; Item: *
footprint SOIC8
pins: 1 VOUT, 2 VCC (power), 3 GND, 4 PFI (in), 5 PFO (out), 6 MR (in), 7 RESET (out), 8 VBATT

## MAX3071E
designator U?, comment value MAX3071E  (hidden comment: AWT25-500174)
IC, MAX3071E; ECAD_Revision: 1; Librarian: US; HelpURL: K:\ACCELEDA\PDF Spec Files\IC\MAX3070E.pdf; PartNumber: AWT25-500174; Item: *
footprint SOIC8
pins: 1 VCC (power), 2 RO (out), 3 DI (in), 4 GND, 5 Y (out), 6 Z (out), 7 B (in), 8 A (in)

## MAX3077E
designator U?, comment value MAX3077E  (hidden comment: AWT25-500031)
IC, MAX3077E; ECAD_Revision: 2; Librarian: US; HelpURL: K:\ACCELEDA\PDF Spec Files\IC\MAX3070E.pdf; PartNumber: AWT25-500031; Item: *
footprint SOIC8
pins: 1 VCC (power), 2 RO (out), 3 DI (in), 4 GND, 5 Y (out), 6 Z (out), 7 B (in), 8 A (in)

## MAX3089ECSD
designator U?, comment IXA/MAX3089ECSD  (value not drawn)
IC, MAX3089ECSD; ECAD_Revision: 1; Librarian: UK; PartNumber: IXA/MAX3089ECSD; Item: *; Value: MAX3089ECSD
footprint SOIC14
pins: 1 H~{/}F (in), 2 D0 (out), 3 ~{RE} (in), 4 DE (in), 5 DI (in), 6 SRL (in), 7 GND, 8 TXP (in), 9 Y (out), 10 Z (out), 11 B (out), 12 A (in), 13 RXP (in), 14 VCC (power)

## MAX3100
designator U?, comment value MAX3100  (hidden comment: AWT25-500032)
IC, MAX3100; ECAD_Revision: 2; Librarian: US; PartNumber: AWT25-500032; HelpURL: K:\ACCELEDA\PDF Spec Files\IC\MAX3100.PDF; Item: *
footprint QSOP16
pins: 1 DIN (in), 2 DOUT (out), 3 SCLK (in), 4 CS (in), 5 N/C, 6 IRQ (out), 7 SHDN (in), 8 GND, 9 X2 (in), 10 X1 (in), 11 CTS (in), 12 N/C, 13 RTS (out), 14 RX (in), 15 TX (out), 16 VCC (power)

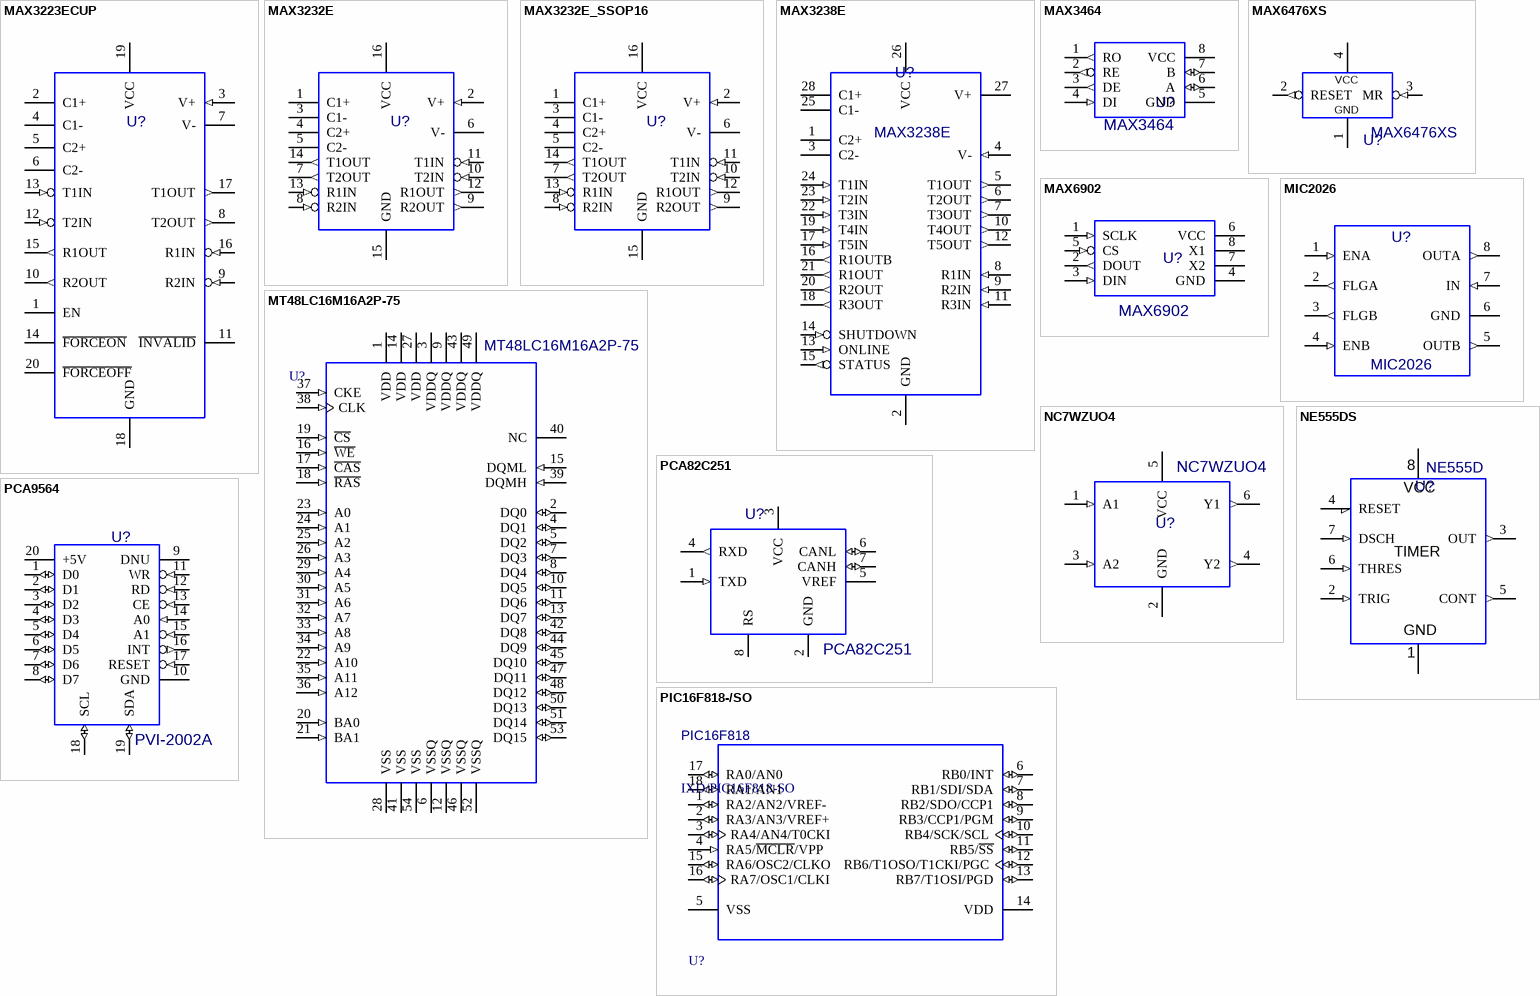
[diagram p3: symbols MAX3223ECUP to PIC16F818-/SO]

## MAX3223ECUP
designator U?, comment IXA/MAX3223ECUP  (value not drawn)
IC, MAX3223ECUP; ECAD_Revision: 2; Librarian: UK; Value: MAX3232E; PartNumber: IXA/MAX3223ECUP; Item: *
footprint TSSOP20
pins: 1 EN, 2 C1+, 3 V+ (in), 4 C1-, 5 C2+, 6 C2-, 7 V-, 8 T2OUT (out), 9 R2IN (in), 10 R2OUT (out), 11 ~{INVALID}, 12 T2IN (in), 13 T1IN (in), 14 ~{FORCEON}, 15 R1OUT (out), 16 R1IN (in), 17 T1OUT (out), 18 GND, 19 VCC (power), 20 ~{FORCEOFF}

## MAX3232E
designator U?, comment 60186-0083  (value not drawn)
IC, MAX3232E; ECAD_Revision: 1; Librarian: US; PartNumber: 60186-0083; HelpURL: K:\ACCELEDA\PDF Spec Files\IC\MAX3222E-MAX3246E.PDF; Item: *; Value: MAX3232E
footprint SOIC16_300
pins: 1 C1+, 2 V+ (in), 3 C1-, 4 C2+, 5 C2-, 6 V-, 7 T2OUT (out), 8 R2IN (in), 9 R2OUT (out), 10 T2IN (in), 11 T1IN (in), 12 R1OUT (out), 13 R1IN (in), 14 T1OUT (out), 15 GND, 16 VCC (power)

## MAX3232E_SSOP16
designator U?, comment AWT25-500175  (value not drawn)
IC, MAX3232E; ECAD_Revision: 1; Librarian: US; PartNumber: AWT25-500175; HelpURL: K:\ACCELEDA\PDF Spec Files\IC\MAX3222E-MAX3246E.PDF; Item: *; Value: MAX3232E
footprint SSOP16
pins: 1 C1+, 2 V+ (in), 3 C1-, 4 C2+, 5 C2-, 6 V-, 7 T2OUT (out), 8 R2IN (in), 9 R2OUT (out), 10 T2IN (in), 11 T1IN (in), 12 R1OUT (out), 13 R1IN (in), 14 T1OUT (out), 15 GND, 16 VCC (power)

## MAX3238E
designator U?, comment value MAX3238E  (hidden comment: 60186-0034)
IC, MAX3238E; ECAD_Revision: 2; Librarian: US; PartNumber: 60186-0034; HelpURL: K:\ACCELEDA\PDF Spec Files\IC\MAX3238E.PDF; Item: *
footprint SSOP65-28
pins: 1 C2+ (power), 2 GND, 3 C2- (power), 4 V- (in), 5 T1OUT (out), 6 T2OUT (out), 7 T3OUT (out), 8 R1IN (in), 9 R2IN (in), 10 T4OUT (out), 11 R3IN (in), 12 T5OUT (out), 13 ONLINE (in), 14 SHUTDOWN (in), 15 STATUS (out), 16 R1OUTB (out), 17 T5IN (in), 18 R3OUT (out), 19 T4IN (in), 20 R2OUT (out), 21 R1OUT (out), 22 T3IN (in), 23 T2IN (in), 24 T1IN (in), 25 C1- (power), 26 VCC (power), 27 V+ (power), 28 C1+ (power)

## MAX3464
designator U?, comment value MAX3464  (hidden comment: 60186-0067)
IC, MAX3464; ECAD_Revision: 1; Librarian: US; PartNumber: 60186-0067; HelpURL: K:\ACCELEDA\PDF Spec Files\IC\MAX3464.pdf; Item: *
footprint SOIC8
pins: 1 RO (out), 2 RE (out), 3 DE (out), 4 DI (in), 5 GND, 6 A (io), 7 B (io), 8 VCC (power)

## MAX6476XS
designator U?, comment value MAX6476XS  (hidden comment: TMP_US_MAX6476XS)
IC, MAX6476XS; ECAD_Revision: 1; Librarian: US; PartNumber: TMP_US_MAX6476XS; HelpURL: K:\ACCELEDA\PDF Spec Files\max6476.pdf; Item: *
pins: 1 GND, 2 RESET (out), 3 MR (in), 4 VCC (power)

## MAX6902
designator U?, comment value MAX6902  (hidden comment: 60197-0031)
IC, MAX6902; ECAD_Revision: 1; Librarian: US; PartNumber: 60197-0031; HelpURL: K:\ACCELEDA\PDF Spec Files\IC\max6902.pdf; Item: *
footprint TDFN8
pins: 1 SCLK (in), 2 DOUT (out), 3 DIN (in), 4 GND, 5 CS (in), 6 VCC (power), 7 X2, 8 X1

## MIC2026
designator U?, comment value MIC2026  (hidden comment: AWT25-500052)
IC, MIC2026; ECAD_Revision: 2; Librarian: US; HelpURL: K:\ACCELEDA\PDF Spec Files\IC\MIC2026.pdf; PartNumber: AWT25-500052; Item: *
footprint SOIC8
pins: 1 ENA (in), 2 FLGA (out), 3 FLGB (out), 4 ENB (in), 5 OUTB (out), 6 GND, 7 IN (in), 8 OUTA (out)

## MT48LC16M16A2P-75
designator U?, comment value MT48LC16M16A2P-75  (hidden comment: TMP_US_MT48LC16M16A2P-75)
IC, 256Mb Synchronous High-Speed CMOS DRAM; ECAD_Revision: 1; Librarian: US; HelpURL: K:\ACCELEDA\PDF Spec Files\IC\micron256msdram.pdf; PartNumber: TMP_US_MT48LC16M16A2P-75
footprint TSOP80P400-54
pins: 1 VDD (power) "Power Supply", 2 DQ0 (io) "Data Input/Output 0", 3 VDDQ (power) "DQ Power", 4 DQ1 (io) "Data Input/Output 1", 5 DQ2 (io) "Data Input/Output 2", 6 VSSQ "DQ Ground", 7 DQ3 (io) "Data Input/Output 3", 8 DQ4 (io) "Data Input/Output 4", 9 VDDQ (power) "DQ Power", 10 DQ5 (io) "Data Input/Output 5", 11 DQ6 (io) "Data Input/Output 6", 12 VSSQ "DQ Ground", 13 DQ7 (io) "Data Input/Output 7", 14 VDD (power) "Power Supply", 15 DQML (in) "Input/Output Mask for DQ0-DQ7", 16 ~{WE} (in) "Command Input", 17 ~{CAS} (in) "Command Input", 18 ~{RAS} (in) "Command Input", 19 ~{CS} (in) "Chip Select", 20 BA0 (in) "Bank Address Input 0", 21 BA1 (in) "Bank Address Input 1", 22 A10 (in) "Address Input 10", 23 A0 (in) "Address Input 0", 24 A1 (in) "Address Input 1", 25 A2 (in) "Address Input 2", 26 A3 (in) "Address Input 3", 27 VDD (power) "Power Supply", 28 VSS "Ground", 29 A4 (in) "Address Input 4", 30 A5 (in) "Address Input 5", 31 A6 (in) "Address Input 6", 32 A7 (in) "Address Input 7", 33 A8 (in) "Address Input 8", 34 A9 (in) "Address Input 9", 35 A11 (in) "Address Input 11", 36 A12 (in) "Address Input 12", 37 CKE (in) "Clock Enable", 38 CLK (in) "Clock", 39 DQMH (in) "Input/Output Mask for DQ8-DQ15", 40 NC "No Connect", 41 VSS "Ground", 42 DQ8 (io) "Data Input/Output 8", 43 VDDQ (power) "DQ Power", 44 DQ9 (io) "Data Input/Output 9", 45 DQ10 (io) "Data Input/Output 10", 46 VSSQ "DQ Ground", 47 DQ11 (io) "Data Input/Output 11", 48 DQ12 (io) "Data Input/Output 12", 49 VDDQ (power) "DQ Power", 50 DQ13 (io) "Data Input/Output 13", 51 DQ14 (io) "Data Input/Output 14", 52 VSSQ "DQ Ground", 53 DQ15 (io) "Data Input/Output 15", 54 VSS "Ground"

## NC7WZUO4
designator U?, comment value NC7WZUO4  (hidden comment: TMP_US_NC7WZUO4)
IC, NC7WZUO4; ECAD_Revision: 1; Librarian: US; PartNumber: TMP_US_NC7WZUO4; HelpURL: K:\ACCELEDA\PDF Spec Files\IC\NC7WZU04.PDF; Item: *
footprint SC70-6
pins: 1 A1 (in), 2 GND, 3 A2 (in), 4 Y2 (out), 5 VCC (power), 6 Y1 (out)

## NE555DS
designator U?, comment value NE555D  (hidden comment: IXA/NE555D)
IC, NE555D; Power Rating: 15; ECAD_Revision: 2; Librarian: UK; PartNumber: IXA/NE555D; HelpURL: *; Item: *; Tolerance: *
footprint SOIC8
pins: 1 GND (power), 2 TRIG (in), 3 OUT (out), 4 RESET, 5 CONT (out), 6 THRES (in), 7 DSCH (in), 8 VCC (power)
text: TIMER

## PCA82C251
designator U?, comment value PCA82C251  (hidden comment: 60186-0075)
IC, PCA82C251; ECAD_Revision: 1; Librarian: US; PartNumber: 60186-0075; HelpURL: K:\ACCELEDA\PDF Spec Files\IC\PCA82C251.PDF; Item: *
footprint SOIC8
pins: 1 TXD (in), 2 GND, 3 VCC (power), 4 RXD (out), 5 VREF, 6 CANL (io), 7 CANH (io), 8 RS

## PCA9564
designator U?, comment value PVI-2002A  (hidden comment: TMP-US_PVI-2002A)
IC, PCA9564; ECAD_Revision: 1; Librarian: US; PartNumber: TMP-US_PVI-2002A; HelpURL: K:\ACCELEDA\PDF Spec Files\IC\pca9564.pdf; Item: *
footprint TSSOP20
3D model MTC20 (PCB3D Model)
pins: 1 D0 (io), 2 D1 (io), 3 D2 (io), 4 D3 (io), 5 D4 (io), 6 D5 (io), 7 D6 (io), 8 D7 (io), 9 DNU, 10 GND, 11 WR (in), 12 RD (in), 13 CE (in), 14 A0 (in), 15 A1 (in), 16 INT (out), 17 RESET (in), 18 SCL (io), 19 SDA (io), 20 +5V (power)

## PIC16F818-/SO
designator U?, comment IXD/PIC16F818-SO  value PIC16F818
IC, PIC16F818-/SO; ECAD_Revision: 1; Librarian: UK; PartNumber: IXD/PIC16F818-SO; Item: *; HelpURL: *
footprint SOIC18_300
pins: 1 RA2/AN2/VREF- (io), 2 RA3/AN3/VREF+ (io), 3 RA4/AN4/T0CKI (io), 4 RA5/~{MCLR}/VPP (in), 5 VSS, 6 RB0/INT (io), 7 RB1/SDI/SDA (io), 8 RB2/SDO/CCP1 (io), 9 RB3/CCP1/PGM (io), 10 RB4/SCK/SCL (io), 11 RB5/~{SS} (io), 12 RB6/T1OSO/T1CKI/PGC (io), 13 RB7/T1OSI/PGD (io), 14 VDD, 15 RA6/OSC2/CLKO (io), 16 RA7/OSC1/CLKI (io), 17 RA0/AN0 (io), 18 RA1/AN1 (io)

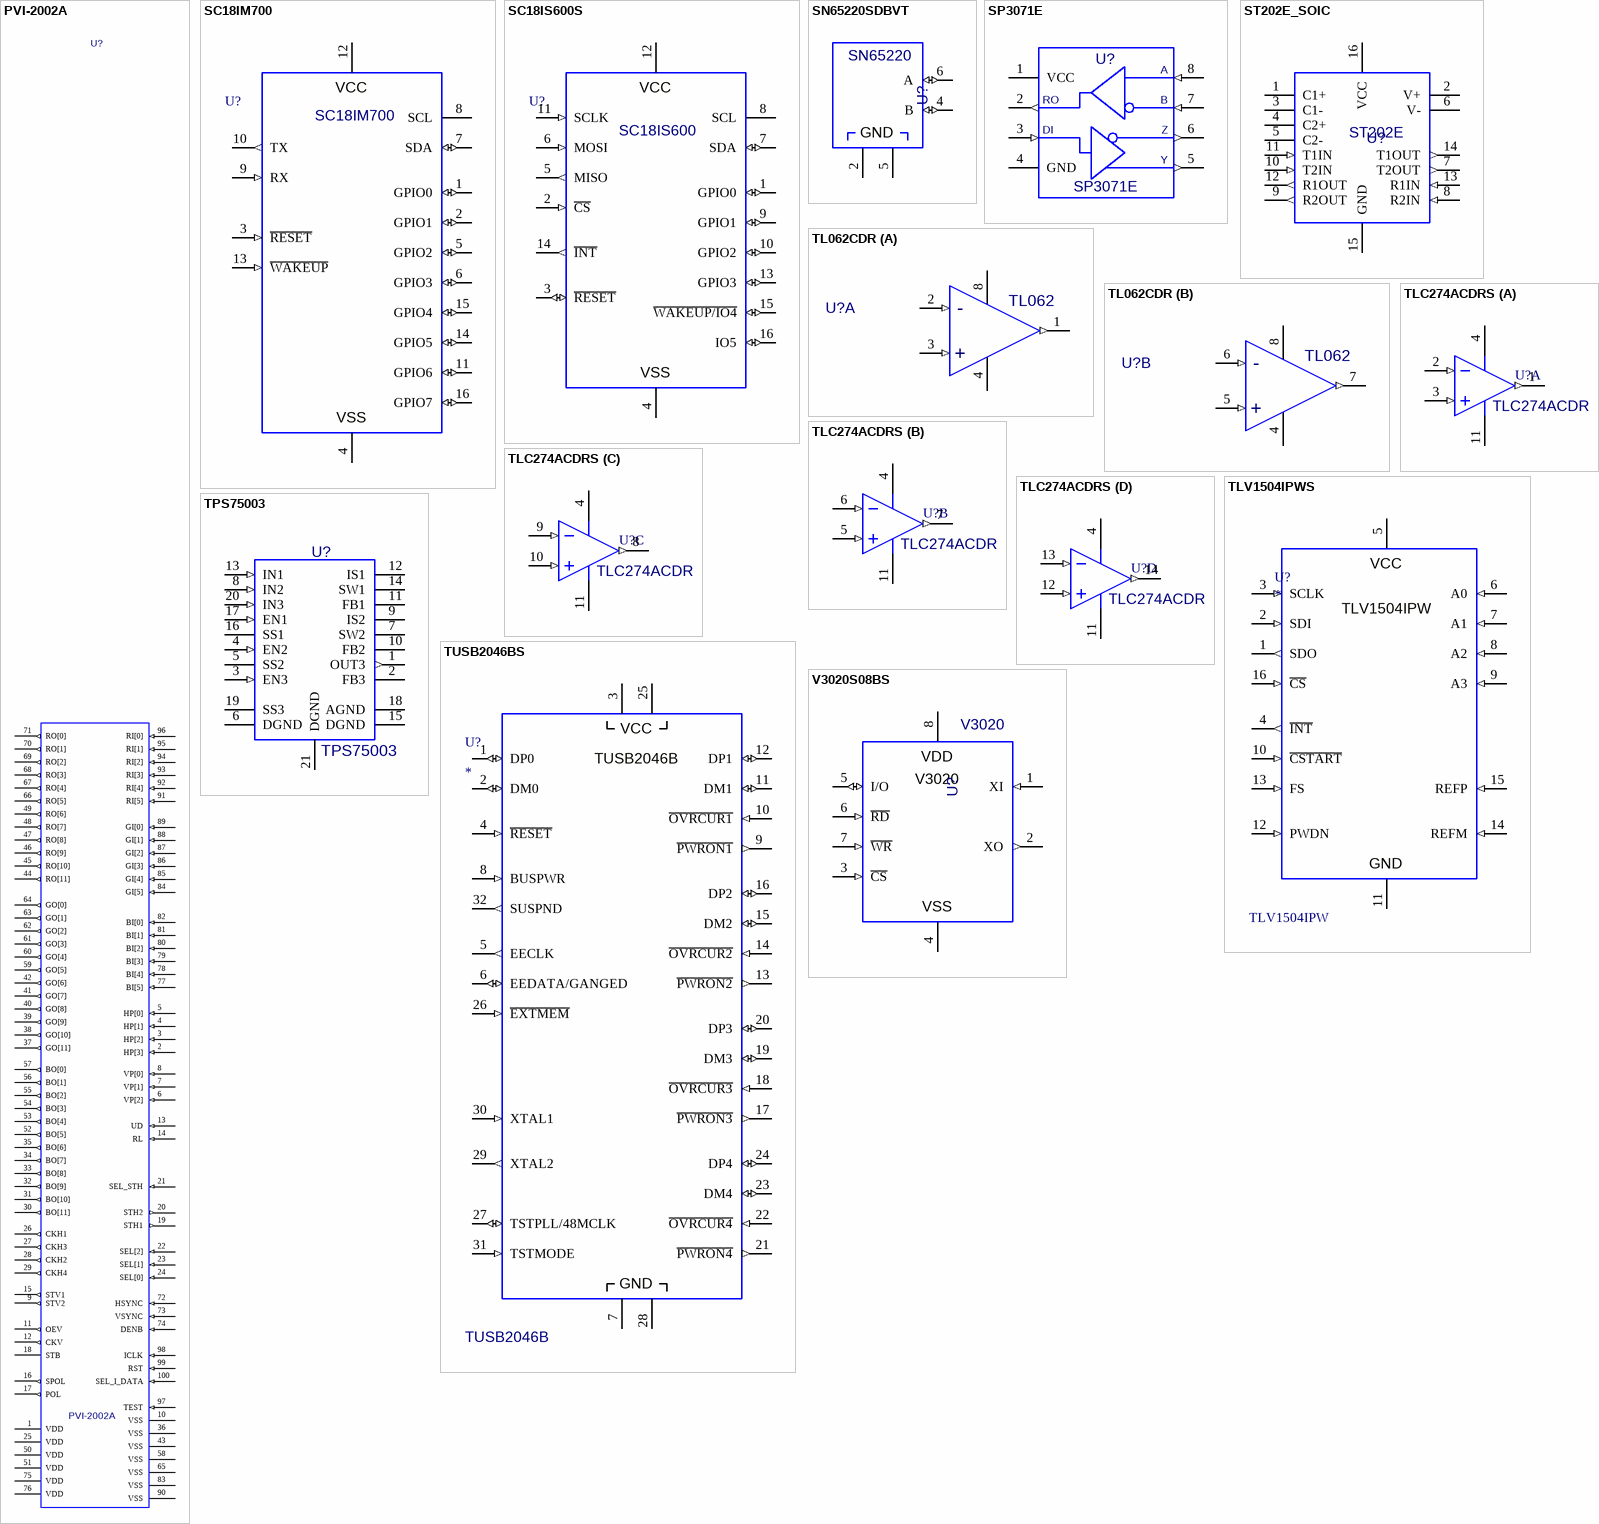
[diagram p4: symbols PVI-2002A to V3020S08BS]

## PVI-2002A
designator U?, comment value PVI-2002A  (hidden comment: AWT25-500080)
IC, PVI-2002A; ECAD_Revision: 2; Librarian: US; PartNumber: AWT25-500080; HelpURL: K:\ACCELEDA\PDF Spec Files\IC\PVI-2002A.pdf; Item: *
footprint Quad100
pins: 1 VDD (power), 2 HP[3] (in), 3 HP[2] (in), 4 HP[1] (in), 5 HP[0] (in), 6 VP[2] (in), 7 VP[1] (in), 8 VP[0] (in), 9 STV2 (out), 10 VSS, 11 OEV (out), 12 CKV (out), 13 UD (in), 14 RL (in), 15 STV1 (out), 16 SPOL (out), 17 POL (out), 18 STB, 19 STH1 (out), 20 STH2 (out), 21 SEL_STH (in), 22 SEL[2] (in), 23 SEL[1] (in), 24 SEL[0] (in), 25 VDD (power), 26 CKH1 (out), 27 CKH3 (out), 28 CKH2 (out), 29 CKH4 (out), 30 BO[11] (out), 31 BO[10] (out), 32 BO[9] (out), 33 BO[8] (out), 34 BO[7] (out), 35 BO[6] (out), 36 VSS, 37 GO[11] (out), 38 GO[10] (out), 39 GO[9] (out), 40 GO[8] (out), 41 GO[7] (out), 42 GO[6] (out), 43 VSS, 44 RO[11] (out), 45 RO[10] (out), 46 RO[9] (out), 47 RO[8] (out), 48 RO[7] (out), 49 RO[6] (out), 50 VDD (power), 51 VDD (power), 52 BO[5] (out), 53 BO[4] (out), 54 BO[3] (out), 55 BO[2] (out), 56 BO[1] (out), 57 BO[0] (out), 58 VSS, 59 GO[5] (out), 60 GO[4] (out), 61 GO[3] (out), 62 GO[2] (out), 63 GO[1] (out), 64 GO[0] (out), 65 VSS, 66 RO[5] (out), 67 RO[4] (out), 68 RO[3] (out), 69 RO[2] (out), 70 RO[1] (out), 71 RO[0] (out), 72 HSYNC (in), 73 VSYNC (in), 74 DENB (in), 75 VDD (power), 76 VDD (power), 77 BI[5] (in), 78 BI[4] (in), 79 BI[3] (in), 80 BI[2] (in), 81 BI[1] (in), 82 BI[0] (in), 83 VSS, 84 GI[5] (in), 85 GI[4] (in), 86 GI[3] (in), 87 GI[2] (in), 88 GI[1] (in), 89 GI[0] (in), 90 VSS, 91 RI[5] (in), 92 RI[4] (in), 93 RI[3] (in), 94 RI[2] (in), 95 RI[1] (in), 96 RI[0] (in), 97 TEST (in), 98 ICLK (in), 99 RST (in), 100 SEL_I_DATA (in)

## SC18IM700
designator U?  value SC18IM700  (hidden comment: *)
IC, SC18IM700, Master I2C-Bus Controller with UART i/f; PartNumber: AWT25-000189; Librarian: UK; ECAD_Revision: 2; HelpURL: *; Power Rating: *; Tolerance: *
footprint TSSOP16
pins: 1 GPIO0 (io) "General Purpose I/O 0", 2 GPIO1 (io) "General Purpose I/O 1", 3 ~{RESET} (in) "Master Reset", 4 VSS "Supply Ground", 5 GPIO2 (io) "General Purpose I/O 2", 6 GPIO3 (io) "General Purpose I/O 3", 7 SDA (io) "I2C Data", 8 SCL "I2C Clock", 9 RX (in) "RS-232 receive input", 10 TX (out) "RS-232 transmit output", 11 GPIO6 (io) "General Purpose I/O 6", 12 VDD "Power Supply", 13 ~{WAKEUP} (in) "Wakeup", 14 GPIO5 (io) "General Purpose I/O 5", 15 GPIO4 (io) "General Purpose I/O 4", 16 GPIO7 (io) "General Purpose I/O 7"
text: VCC

## SC18IS600S
designator U?  value SC18IS600  (hidden comment: *)
IC, SC18IS600, SPI to I2C Bridge Interface; PartNumber: AWT25-000110; Librarian: UK; ECAD_Revision: 1; HelpURL: *; Power Rating: *; Tolerance: *
footprint TSSOP16
pins: 1 GPIO0 (io) "General Purpose I/O 0", 2 ~{CS} (in) "Chip Select", 3 ~{RESET} (io) "Master Reset", 4 VSS (power) "Supply Ground", 5 MISO (out) "SPI Slave Data Output", 6 MOSI (in) "SPI Slave Data Input", 7 SDA (io) "I2C Data", 8 SCL "I2C Clock", 9 GPIO1 (io) "General Purpose I/O 1", 10 GPIO2 (io) "General Purpose I/O 2", 11 SCLK (in) "SPI Serial Clock", 12 VDD (power) "Power Supply", 13 GPIO3 (io) "General Purpose I/O 3", 14 ~{INT} (out) "Interupt", 15 ~{WAKEUP/IO4} (io) "Wake Up Input/ Bidirection I/O 4", 16 IO5 (io) "Bidirectional I/O 5"
text: VCC

## SN65220SDBVT
designator U?, comment value SN65220  (hidden comment: AWT25-000115)
IC, SN65220, Single transient voltage suppressor; ECAD_Revision: 1; Librarian: UK; PartNumber: AWT25-000115; Item: *; Power Rating: *; Tolerance: *; HelpURL: *
footprint SOIC6
pins: 2 GND (power) "Ground", 4 B (io) "Data Negative", 5 GND (power) "Ground", 6 A (io) "Data Positive"

## SP3071E
designator U?, comment value SP3071E  (hidden comment: AWT25-500100)
IC, SP3071E; ECAD_Revision: 1; Librarian: US; HelpURL: K:\ACCELEDA\PDF Spec Files\IC\SP3070-3078E.pdf; PartNumber: AWT25-500100; Item: *
footprint SOIC8
pins: 1 VCC (power), 2 RO (out), 3 DI (in), 4 GND, 5 Y (out), 6 Z (out), 7 B (in), 8 A (in)

## ST202E_SOIC
designator U?, comment value ST202E  (hidden comment: AWT25-500168)
IC, MAX202E; ECAD_Revision: 1; Librarian: US; PartNumber: AWT25-500168; HelpURL: K:\ACCELEDA\PDF Spec Files\IC\ST202E.PDF; Item: *
footprint SOIC16
pins: 1 C1+, 2 V+, 3 C1-, 4 C2+, 5 C2-, 6 V-, 7 T2OUT (out), 8 R2IN (in), 9 R2OUT (out), 10 T2IN (in), 11 T1IN (in), 12 R1OUT (out), 13 R1IN (in), 14 T1OUT (out), 15 GND, 16 VCC (power)

## TL062CDR
designator U?, comment value TL062  (hidden comment: IXA/TL062CDR)
IC, TL062CDR; ECAD_Revision: 1; Librarian: UK; PartNumber: IXA/TL062CDR; Item: *
footprint SOIC8
part A pins: 1 1OUT (out), 2 1IN- (in), 3 1IN+ (in), 4 GND, 8 VCC (power)
part B pins: 4 GND, 5 1IN+ (in), 6 1IN- (in), 7 1OUT (out), 8 VCC (power)
part A text: -; +
part B text: -; +

## TLC274ACDRS
designator U?, comment value TLC274ACDR  (hidden comment: IXA/TLC274ACDR)
IC, TLC274ACDR; Power Rating: 950; ECAD_Revision: 1; Librarian: UK; Tolerance: *; PartNumber: IXA/TLC274ACDR; Item: *; HelpURL: *
footprint SM14
3D model D014 (Small Outline; 14 Leads; Body Width 3.9 mm; Pitch 1.27 mm)
pins on every part: 4 (power), 11 (power)
part A pins: 1 (out), 2 (in), 3 (in)
part B pins: 5 (in), 6 (in), 7 (out)
part C pins: 8 (out), 9 (in), 10 (in)
part D pins: 12 (in), 13 (in), 14 (out)

## TLV1504IPWS
designator U?  value TLV1504IPW
IC, TLV1504IPW,  Channel, 10 Bit ADC; PartNumber: AWT25-000107; ECAD_Revision: 1; Librarian: UK; HelpURL: *; Item: *; Power Rating: *; Tolerance: *
footprint SOIC16_400 (Texas 16 pin, 1.27mm pitch, SOIC, 4.00 wide, Rev. 1)
pins: 1 SDO (out) "Data Out", 2 SDI (in) "Data Input", 3 SCLK (in) "Serial Clock Input", 4 ~{INT} (out) "Interupt", 5 VCC "Logic Power Supply Input", 6 A0 (in) "Analog Input 0", 7 A1 (in) "Analog Input 1", 8 A2 (in) "Analog Input 2", 9 A3 (in) "Analog Input 3", 10 ~{CSTART} (in) "Start Sampling", 11 GND "Analog Ground", 12 PWDN (in) "Powerdown", 13 FS (in) "Frame Sync", 14 REFM (in) "External Reference Input", 15 REFP (in) "External Reference Input", 16 ~{CS} (in) "Chip Select"

## TPS75003
designator U?, comment value TPS75003  (hidden comment: AWT25-500081)
IC, TPS75003; ECAD_Revision: 2; Librarian: US; PartNumber: AWT25-500081; HelpURL: K:\ACCELEDA\PDF Spec Files\IC\TPS75003.pdf; Item: *
footprint QFN_20
pins: 1 OUT3 (out), 2 FB3, 3 EN3 (in), 4 EN2 (in), 5 SS2, 6 DGND, 7 SW2, 8 IN2 (in), 9 IS2, 10 FB2, 11 FB1, 12 IS1, 13 IN1 (in), 14 SW1, 15 DGND, 16 SS1, 17 EN1 (in), 18 AGND, 19 SS3, 20 IN3 (in), 21 DGND

## TUSB2046BS
designator U?  value TUSB2046B
IC, TUSB2046B,  Port USB Hub; PartNumber: AWT25-000113; Librarian: UK; ECAD_Revision: 2; helpURL: *; Item: *; Power: *; Tolerance: *
footprint PQFP_32 (Texas 0.8mm 32 pin pitch plastic quad flatpack, Rev. 2)
pins: 1 DP0 (io) "Root port USB differential data plus", 2 DM0 (io) "Root port USB differential data minus", 3 VCC (power) "3.3V Supply voltage", 4 ~{RESET} (in) "Reset", 5 EECLK (out) "EEPROM serial clock", 6 EEDATA/GANGED (io) "EEPROM serial data/power-management mode indicator", 7 GND (power) "Ground", 8 BUSPWR (in) "Power source indicator", 9 ~{PWRON1} (out) "Power-on/-off control signals 1", 10 ~{OVRCUR1} (in) "Overcurrent input 1", 11 DM1 (io) "USB differential data minus - DM1", 12 DP1 (io) "USB differential data plus - DP1", 13 ~{PWRON2} (out) "Power-on/-off control signals 2", 14 ~{OVRCUR2} (in) "Overcurrent input 2", 15 DM2 (io) "USB differential data minus - DM2", 16 DP2 (io) "USB differential data plus - DP2", 17 ~{PWRON3} (out) "Power-on/-off control signals 3", 18 ~{OVRCUR3} (in) "Overcurrent input 3", 19 DM3 (io) "USB differential data minus - DM3", 20 DP3 (io) "USB differential data plus - DP3", 21 ~{PWRON4} (out) "Power-on/-off control signals 4", 22 ~{OVRCUR4} (in) "Overcurrent input 4", 23 DM4 (io) "USB differential data minus - DM4", 24 DP4 (io) "USB differential data plus - DP4", 25 VCC (power) "3.3V Supply voltage", 26 ~{EXTMEM} (in) "EEPROM read enable", 27 TSTPLL/48MCLK (io) "Test/48-MHz clock input", 28 GND (power) "Ground", 29 XTAL2 (out) "Crystal  output", 30 XTAL1 (in) "Crystal  input", 31 TSTMODE (in) "Test/mode terminal", 32 SUSPND (out) "Suspend status"

## V3020S08BS
designator U?, comment value V3020  (hidden comment: IXD/V3020S08B)
IC, V3020S08B, Real Time Clock; ECAD_Revision: 1; Librarian: UK; PartNumber: IXD/V3020S08B; Item: *; HelpURL: *; Power Rating: *; Tolerance: *
footprint SOIC8
pins: 1 XI (in) "32KHz Crystal Input", 2 XO (out) "32KHz Crystal Output", 3 ~{CS} (in) "Chip Select Input", 4 VSS "Ground", 5 I/O (io) "Data Input/Output", 6 ~{RD} (in) "Data Read", 7 ~{WR} (in) "Data Write", 8 VDD "Positive Supply"

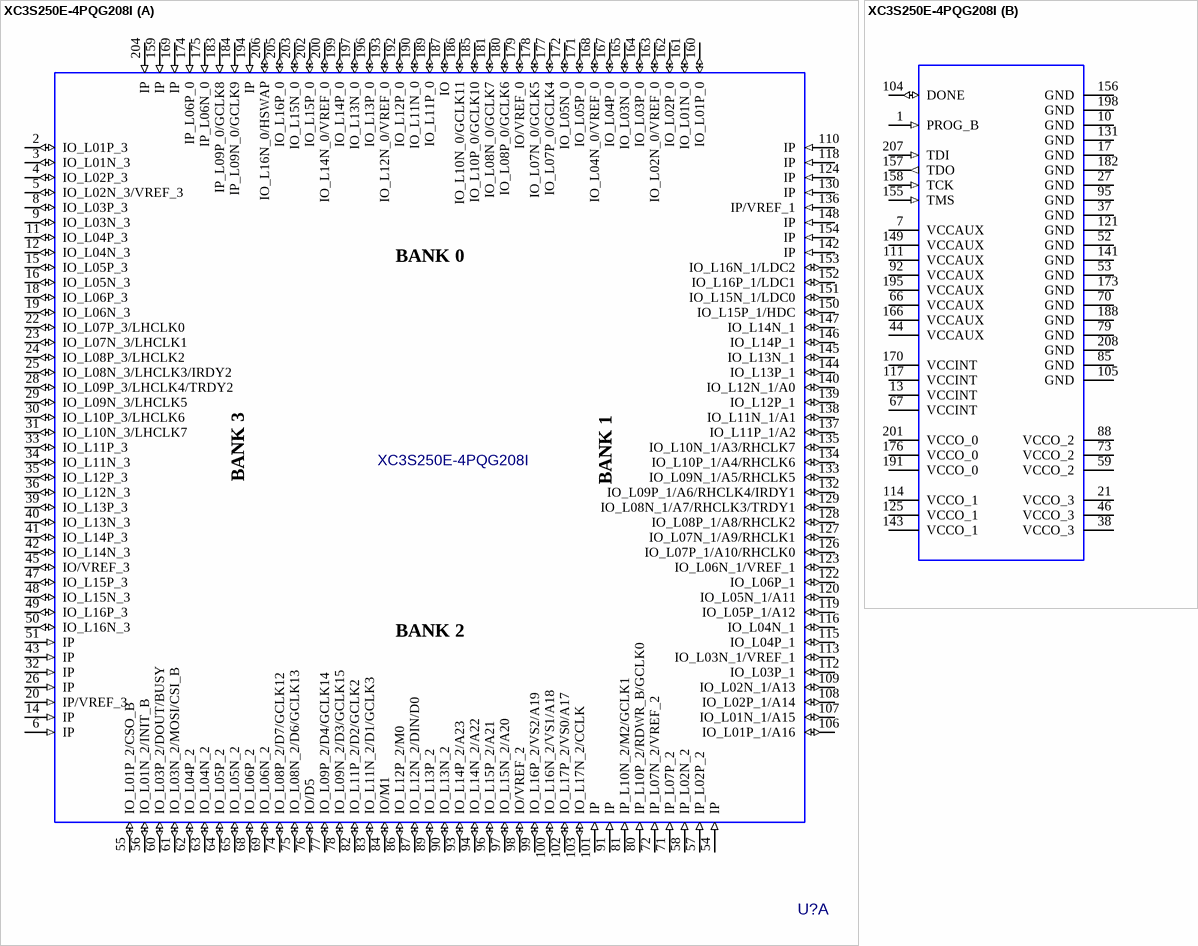
[diagram p5: symbol XC3S250E-4PQG208I]

## XC3S250E-4PQG208I
designator U?, comment value XC3S250E-4PQG208I  (hidden comment: AWT25-500082)
IC, XC3S250E-4PQG208I; ECAD_Revision: 2; Librarian: US; HelpURL: K:\ACCELEDA\PDF Spec Files\IC\XC3S.pdf; PartNumber: AWT25-500082
footprint PQFG208 (208-Pin Plastic Quad Flat Pack (PQG208) - Pb-Free)
3D model PQFG208 (PCB3D Model)
part A pins: 2 IO_L01P_3 (io), 3 IO_L01N_3 (io), 4 IO_L02P_3 (io), 5 IO_L02N_3/VREF_3 (io), 6 IP (in), 8 IO_L03P_3 (io), 9 IO_L03N_3 (io), 11 IO_L04P_3 (io), 12 IO_L04N_3 (io), 14 IP (in), 15 IO_L05P_3 (io), 16 IO_L05N_3 (io), 18 IO_L06P_3 (io), 19 IO_L06N_3 (io), 20 IP/VREF_3 (in), 22 IO_L07P_3/LHCLK0 (io), 23 IO_L07N_3/LHCLK1 (io), 24 IO_L08P_3/LHCLK2 (io), 25 IO_L08N_3/LHCLK3/IRDY2 (io), 26 IP (in), 28 IO_L09P_3/LHCLK4/TRDY2 (io), 29 IO_L09N_3/LHCLK5 (io), 30 IO_L10P_3/LHCLK6 (io), 31 IO_L10N_3/LHCLK7 (io), 32 IP (in), 33 IO_L11P_3 (io), 34 IO_L11N_3 (io), 35 IO_L12P_3 (io), 36 IO_L12N_3 (io), 39 IO_L13P_3 (io), 40 IO_L13N_3 (io), 41 IO_L14P_3 (io), 42 IO_L14N_3 (io), 43 IP (in), 45 IO/VREF_3 (io), 47 IO_L15P_3 (io), 48 IO_L15N_3 (io), 49 IO_L16P_3 (io), 50 IO_L16N_3 (io), 51 IP (in), 54 IP (in), 55 IO_L01P_2/CSO_B (io), 56 IO_L01N_2/INIT_B (io), 57 IP_L02P_2 (in), 58 IP_L02N_2 (in), 60 IO_L03P_2/DOUT/BUSY (io), 61 IO_L03N_2/MOSI/CSI_B (io), 62 IO_L04P_2 (io), 63 IO_L04N_2 (io), 64 IO_L05P_2 (io), 65 IO_L05N_2 (io), 68 IO_L06P_2 (io), 69 IO_L06N_2 (io), 71 IP_L07P_2 (in), 72 IP_L07N_2/VREF_2 (in), 74 IO_L08P_2/D7/GCLK12 (io), 75 IO_L08N_2/D6/GCLK13 (io), 76 IO/D5 (io), 77 IO_L09P_2/D4/GCLK14 (io), 78 IO_L09N_2/D3/GCLK15 (io), 80 IP_L10P_2/RDWR_B/GCLK0 (in), 81 IP_L10N_2/M2/GCLK1 (in), 82 IO_L11P_2/D2/GCLK2 (io), 83 IO_L11N_2/D1/GCLK3 (io), 84 IO/M1 (io), 86 IO_L12P_2/M0 (io), 87 IO_L12N_2/DIN/D0 (io), 89 IO_L13P_2 (io), 90 IO_L13N_2 (io), 91 IP (in), 93 IO_L14P_2/A23 (io), 94 IO_L14N_2/A22 (io), 96 IO_L15P_2/A21 (io), 97 IO_L15N_2/A20 (io), 98 IO/VREF_2 (io), 99 IO_L16P_2/VS2/A19 (io), 100 IO_L16N_2/VS1/A18 (io), 101 IP (in), 102 IO_L17P_2/VS0/A17 (io), 103 IO_L17N_2/CCLK (io), 106 IO_L01P_1/A16 (io), 107 IO_L01N_1/A15 (io), 108 IO_L02P_1/A14 (io), 109 IO_L02N_1/A13 (io), 110 IP (in), 112 IO_L03P_1 (io), 113 IO_L03N_1/VREF_1 (io), 115 IO_L04P_1 (io), 116 IO_L04N_1 (io), 118 IP (in), 119 IO_L05P_1/A12 (io), 120 IO_L05N_1/A11 (io), 122 IO_L06P_1 (io), 123 IO_L06N_1/VREF_1 (io), 124 IP (in), 126 IO_L07P_1/A10/RHCLK0 (io), 127 IO_L07N_1/A9/RHCLK1 (io), 128 IO_L08P_1/A8/RHCLK2 (io), 129 IO_L08N_1/A7/RHCLK3/TRDY1 (io), 130 IP (in), 132 IO_L09P_1/A6/RHCLK4/IRDY1 (io), 133 IO_L09N_1/A5/RHCLK5 (io), 134 IO_L10P_1/A4/RHCLK6 (io), 135 IO_L10N_1/A3/RHCLK7 (io), 136 IP/VREF_1 (in), 137 IO_L11P_1/A2 (io), 138 IO_L11N_1/A1 (io), 139 IO_L12P_1 (io), 140 IO_L12N_1/A0 (io), 142 IP (in), 144 IO_L13P_1 (io), 145 IO_L13N_1 (io), 146 IO_L14P_1 (io), 147 IO_L14N_1 (io), 148 IP (in), 150 IO_L15P_1/HDC (io), 151 IO_L15N_1/LDC0 (io), 152 IO_L16P_1/LDC1 (io), 153 IO_L16N_1/LDC2 (io), 154 IP (in), 159 IP (in), 160 IO_L01P_0 (io), 161 IO_L01N_0 (io), 162 IO_L02P_0 (io), 163 IO_L02N_0/VREF_0 (io), 164 IO_L03P_0 (io), 165 IO_L03N_0 (io), 167 IO_L04P_0 (io), 168 IO_L04N_0/VREF_0 (io), 169 IP (in), 171 IO_L05P_0 (io), 172 IO_L05N_0 (io), 174 IP_L06P_0 (in), 175 IP_L06N_0 (in), 177 IO_L07P_0/GCLK4 (io), 178 IO_L07N_0/GCLK5 (io), 179 IO/VREF_0 (io), 180 IO_L08P_0/GCLK6 (io), 181 IO_L08N_0/GCLK7 (io), 183 IP_L09P_0/GCLK8 (in), 184 IP_L09N_0/GCLK9 (in), 185 IO_L10P_0/GCLK10 (io), 186 IO_L10N_0/GCLK11 (io), 187 IO (io), 189 IO_L11P_0 (io), 190 IO_L11N_0 (io), 192 IO_L12P_0 (io), 193 IO_L12N_0/VREF_0 (io), 194 IP (in), 196 IO_L13P_0 (io), 197 IO_L13N_0 (io), 199 IO_L14P_0 (io), 200 IO_L14N_0/VREF_0 (io), 202 IO_L15P_0 (io), 203 IO_L15N_0 (io), 204 IP (in), 205 IO_L16P_0 (io), 206 IO_L16N_0/HSWAP (io)
part B pins: 1 PROG_B (in), 7 VCCAUX (power), 10 GND, 13 VCCINT (power), 17 GND, 21 VCCO_3 (power), 27 GND, 37 GND, 38 VCCO_3 (power), 44 VCCAUX (power), 46 VCCO_3 (power), 52 GND, 53 GND, 59 VCCO_2 (power), 66 VCCAUX (power), 67 VCCINT (power), 70 GND, 73 VCCO_2 (power), 79 GND, 85 GND, 88 VCCO_2 (power), 92 VCCAUX (power), 95 GND, 104 DONE (io), 105 GND, 111 VCCAUX (power), 114 VCCO_1 (power), 117 VCCINT (power), 121 GND, 125 VCCO_1 (power), 131 GND, 141 GND, 143 VCCO_1 (power), 149 VCCAUX (power), 155 TMS (in), 156 GND, 157 TDO (out), 158 TCK (in), 166 VCCAUX (power), 170 VCCINT (power), 173 GND, 176 VCCO_0 (power), 182 GND, 188 GND, 191 VCCO_0 (power), 195 VCCAUX (power), 198 GND, 201 VCCO_0 (power), 207 TDI (in), 208 GND
part A text: BANK 0; BANK 3; BANK 1; BANK 2